# Altium schematic symbol library MCU_ST_STM32L1.SchLib: 158 symbols (part 3 of 4)
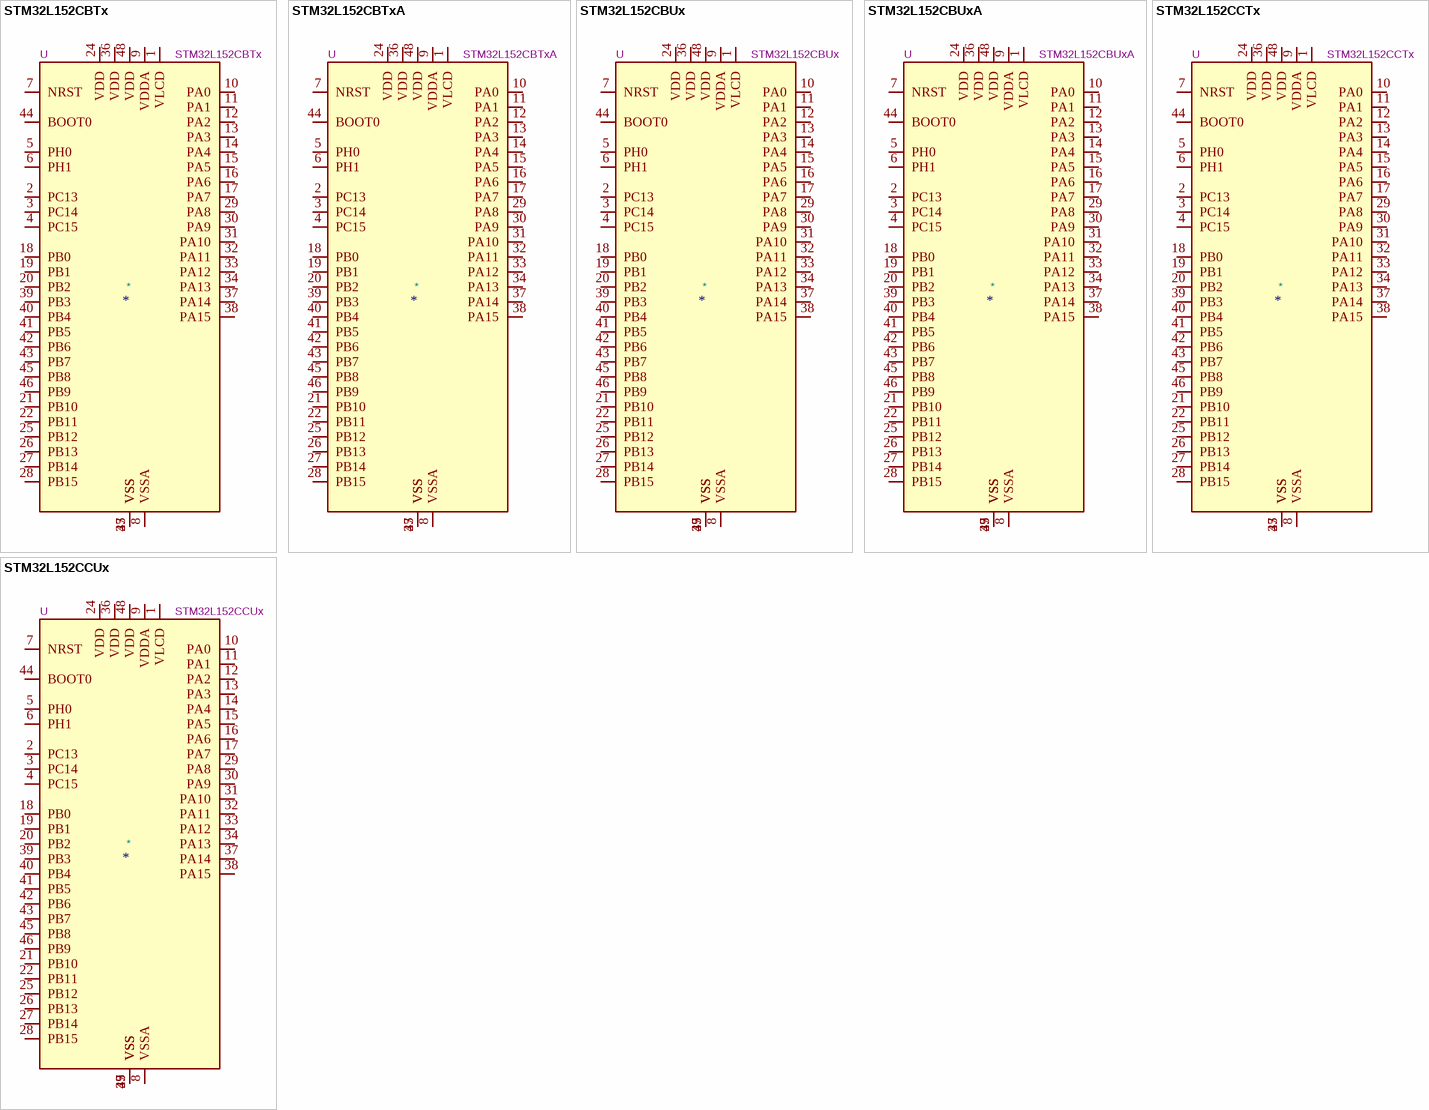
[diagram p28: symbols STM32L152CBTx to STM32L152CCUx]

## STM32L152CBTxA
designator *  value STM32L152CBTxA  Reference: U
STMicroelectronics Arm Cortex-M3 MCU, 128KB flash, 32KB RAM, 32 MHz, 1.65-3.6V, 37 GPIO, LQFP48; ki_keywords: Arm Cortex-M3 STM32L1 STM32L151/152; ki_fp_filters: LQFP*7x7mm*P0.5mm*; Footprint: Package_QFP:LQFP-48_7x7mm_P0.5mm; Datasheet: https://www.st.com/resource/en/datasheet/stm32l152cb-a.pdf; Description_: STMicroelectronics Arm Cortex-M3 MCU, 128KB flash, 32KB RAM, 32 MHz, 1.65-3.6V, 37 GPIO, LQFP48
pins: 1 VLCD, 2 PC13, 3 PC14, 4 PC15, 5 PH0, 6 PH1, 7 NRST, 8 VSSA, 9 VDDA, 10 PA0, 11 PA1, 12 PA2, 13 PA3, 14 PA4, 15 PA5, 16 PA6, 17 PA7, 18 PB0, 19 PB1, 20 PB2, 21 PB10, 22 PB11, 23 VSS, 24 VDD, 25 PB12, 26 PB13, 27 PB14, 28 PB15, 29 PA8, 30 PA9, 31 PA10, 32 PA11, 33 PA12, 34 PA13, 35 VSS, 36 VDD, 37 PA14, 38 PA15, 39 PB3, 40 PB4, 41 PB5, 42 PB6, 43 PB7, 44 BOOT0, 45 PB8, 46 PB9, 47 VSS, 48 VDD

## STM32L152CBUx
designator *  value STM32L152CBUx  Reference: U
STMicroelectronics Arm Cortex-M3 MCU, 128KB flash, 16KB RAM, 32 MHz, 1.65-3.6V, 37 GPIO, UFQFPN48; ki_keywords: Arm Cortex-M3 STM32L1 STM32L151/152; ki_fp_filters: QFN*1EP*7x7mm*P0.5mm*; Footprint: Package_DFN_QFN:QFN-48-1EP_7x7mm_P0.5mm_EP5.6x5.6mm; Datasheet: https://www.st.com/resource/en/datasheet/stm32l152cb.pdf; Description_: STMicroelectronics Arm Cortex-M3 MCU, 128KB flash, 16KB RAM, 32 MHz, 1.65-3.6V, 37 GPIO, UFQFPN48
pins: 1 VLCD, 2 PC13, 3 PC14, 4 PC15, 5 PH0, 6 PH1, 7 NRST, 8 VSSA, 9 VDDA, 10 PA0, 11 PA1, 12 PA2, 13 PA3, 14 PA4, 15 PA5, 16 PA6, 17 PA7, 18 PB0, 19 PB1, 20 PB2, 21 PB10, 22 PB11, 23 VSS, 24 VDD, 25 PB12, 26 PB13, 27 PB14, 28 PB15, 29 PA8, 30 PA9, 31 PA10, 32 PA11, 33 PA12, 34 PA13, 35 VSS, 36 VDD, 37 PA14, 38 PA15, 39 PB3, 40 PB4, 41 PB5, 42 PB6, 43 PB7, 44 BOOT0, 45 PB8, 46 PB9, 47 VSS, 48 VDD, 49 VSS

## STM32L152CBUxA
designator *  value STM32L152CBUxA  Reference: U
STMicroelectronics Arm Cortex-M3 MCU, 128KB flash, 32KB RAM, 32 MHz, 1.65-3.6V, 37 GPIO, UFQFPN48; ki_keywords: Arm Cortex-M3 STM32L1 STM32L151/152; ki_fp_filters: QFN*1EP*7x7mm*P0.5mm*; Footprint: Package_DFN_QFN:QFN-48-1EP_7x7mm_P0.5mm_EP5.6x5.6mm; Datasheet: https://www.st.com/resource/en/datasheet/stm32l152cb-a.pdf; Description_: STMicroelectronics Arm Cortex-M3 MCU, 128KB flash, 32KB RAM, 32 MHz, 1.65-3.6V, 37 GPIO, UFQFPN48
pins: 1 VLCD, 2 PC13, 3 PC14, 4 PC15, 5 PH0, 6 PH1, 7 NRST, 8 VSSA, 9 VDDA, 10 PA0, 11 PA1, 12 PA2, 13 PA3, 14 PA4, 15 PA5, 16 PA6, 17 PA7, 18 PB0, 19 PB1, 20 PB2, 21 PB10, 22 PB11, 23 VSS, 24 VDD, 25 PB12, 26 PB13, 27 PB14, 28 PB15, 29 PA8, 30 PA9, 31 PA10, 32 PA11, 33 PA12, 34 PA13, 35 VSS, 36 VDD, 37 PA14, 38 PA15, 39 PB3, 40 PB4, 41 PB5, 42 PB6, 43 PB7, 44 BOOT0, 45 PB8, 46 PB9, 47 VSS, 48 VDD, 49 VSS

## STM32L152CCTx
designator *  value STM32L152CCTx  Reference: U
STMicroelectronics Arm Cortex-M3 MCU, 256KB flash, 32KB RAM, 32 MHz, 1.65-3.6V, 37 GPIO, LQFP48; ki_keywords: Arm Cortex-M3 STM32L1 STM32L151/152; ki_fp_filters: LQFP*7x7mm*P0.5mm*; Footprint: Package_QFP:LQFP-48_7x7mm_P0.5mm; Datasheet: https://www.st.com/resource/en/datasheet/stm32l152cc.pdf; Description_: STMicroelectronics Arm Cortex-M3 MCU, 256KB flash, 32KB RAM, 32 MHz, 1.65-3.6V, 37 GPIO, LQFP48
pins: 1 VLCD, 2 PC13, 3 PC14, 4 PC15, 5 PH0, 6 PH1, 7 NRST, 8 VSSA, 9 VDDA, 10 PA0, 11 PA1, 12 PA2, 13 PA3, 14 PA4, 15 PA5, 16 PA6, 17 PA7, 18 PB0, 19 PB1, 20 PB2, 21 PB10, 22 PB11, 23 VSS, 24 VDD, 25 PB12, 26 PB13, 27 PB14, 28 PB15, 29 PA8, 30 PA9, 31 PA10, 32 PA11, 33 PA12, 34 PA13, 35 VSS, 36 VDD, 37 PA14, 38 PA15, 39 PB3, 40 PB4, 41 PB5, 42 PB6, 43 PB7, 44 BOOT0, 45 PB8, 46 PB9, 47 VSS, 48 VDD

## STM32L152CCUx
designator *  value STM32L152CCUx  Reference: U
STMicroelectronics Arm Cortex-M3 MCU, 256KB flash, 32KB RAM, 32 MHz, 1.65-3.6V, 37 GPIO, UFQFPN48; ki_keywords: Arm Cortex-M3 STM32L1 STM32L151/152; ki_fp_filters: QFN*1EP*7x7mm*P0.5mm*; Footprint: Package_DFN_QFN:QFN-48-1EP_7x7mm_P0.5mm_EP5.6x5.6mm; Datasheet: https://www.st.com/resource/en/datasheet/stm32l152cc.pdf; Description_: STMicroelectronics Arm Cortex-M3 MCU, 256KB flash, 32KB RAM, 32 MHz, 1.65-3.6V, 37 GPIO, UFQFPN48
pins: 1 VLCD, 2 PC13, 3 PC14, 4 PC15, 5 PH0, 6 PH1, 7 NRST, 8 VSSA, 9 VDDA, 10 PA0, 11 PA1, 12 PA2, 13 PA3, 14 PA4, 15 PA5, 16 PA6, 17 PA7, 18 PB0, 19 PB1, 20 PB2, 21 PB10, 22 PB11, 23 VSS, 24 VDD, 25 PB12, 26 PB13, 27 PB14, 28 PB15, 29 PA8, 30 PA9, 31 PA10, 32 PA11, 33 PA12, 34 PA13, 35 VSS, 36 VDD, 37 PA14, 38 PA15, 39 PB3, 40 PB4, 41 PB5, 42 PB6, 43 PB7, 44 BOOT0, 45 PB8, 46 PB9, 47 VSS, 48 VDD, 49 VSS

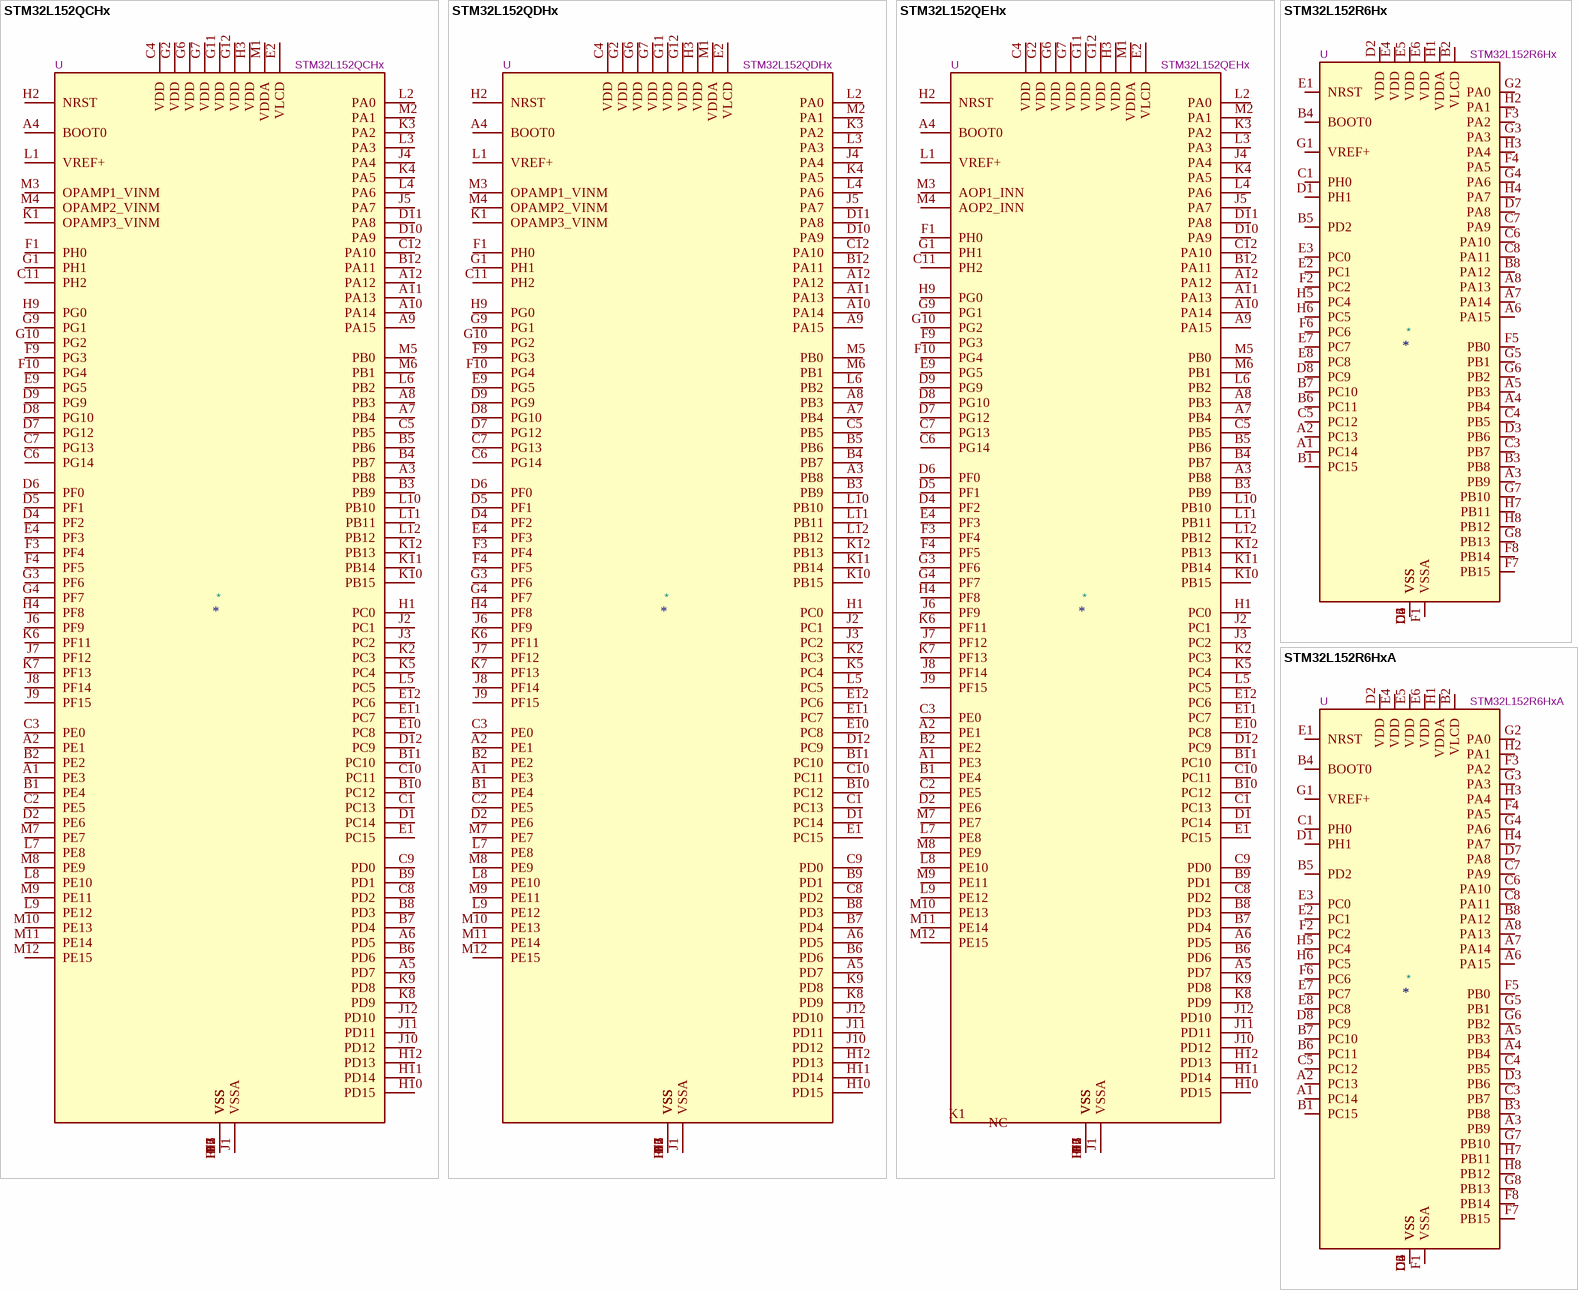
[diagram p14: symbols STM32L152QCHx to STM32L152R6HxA]

## STM32L152QCHx
designator *  value STM32L152QCHx  Reference: U
STMicroelectronics Arm Cortex-M3 MCU, 256KB flash, 32KB RAM, 32 MHz, 1.65-3.6V, 112 GPIO, UFBGA132; ki_keywords: Arm Cortex-M3 STM32L1 STM32L151/152; ki_fp_filters: UFBGA*7x7mm*Layout12x12*P0.5mm*; Footprint: Package_BGA:UFBGA-132_7x7mm_Layout12x12_P0.5mm; Datasheet: https://www.st.com/resource/en/datasheet/stm32l152qc.pdf; Description_: STMicroelectronics Arm Cortex-M3 MCU, 256KB flash, 32KB RAM, 32 MHz, 1.65-3.6V, 112 GPIO, UFBGA132
pins: A1 PE3, A2 PE1, A3 PB8, A4 BOOT0, A5 PD7, A6 PD5, A7 PB4, A8 PB3, A9 PA15, A10 PA14, A11 PA13, A12 PA12, B1 PE4, B2 PE2, B3 PB9, B4 PB7, B5 PB6, B6 PD6, B7 PD4, B8 PD3, B9 PD1, B10 PC12, B11 PC10, B12 PA11, C1 PC13, C2 PE5, C3 PE0, C4 VDD, C5 PB5, C6 PG14, C7 PG13, C8 PD2, C9 PD0, C10 PC11, C11 PH2, C12 PA10, D1 PC14, D2 PE6, D3 VSS, D4 PF2, D5 PF1, D6 PF0, D7 PG12, D8 PG10, D9 PG9, D10 PA9, D11 PA8, D12 PC9, E1 PC15, E2 VLCD, E3 VSS, E4 PF3, E9 PG5, E10 PC8, E11 PC7, E12 PC6, F1 PH0, F2 VSS, F3 PF4, F4 PF5, F6 VSS, F7 VSS, F9 PG3, F10 PG4, F11 VSS, F12 VSS, G1 PH1, G2 VDD, G3 PF6, G4 PF7, G6 VDD, G7 VDD, G9 PG1, G10 PG2, G11 VDD, G12 VDD, H1 PC0, H2 NRST, H3 VDD, H4 PF8, H9 PG0, H10 PD15, H11 PD14, H12 PD13, J1 VSSA, J2 PC1, J3 PC2, J4 PA4, J5 PA7, J6 PF9, J7 PF12, J8 PF14, J9 PF15, J10 PD12, J11 PD11, J12 PD10, K1 OPAMP3_VINM, K2 PC3, K3 PA2, K4 PA5, K5 PC4, K6 PF11, K7 PF13, K8 PD9, K9 PD8, K10 PB15, K11 PB14, K12 PB13, L1 VREF+, L2 PA0, L3 PA3, L4 PA6, L5 PC5, L6 PB2, L7 PE8, L8 PE10, L9 PE12, L10 PB10, L11 PB11, L12 PB12, M1 VDDA, M2 PA1, M3 OPAMP1_VINM, M4 OPAMP2_VINM, M5 PB0, M6 PB1, M7 PE7, M8 PE9, M9 PE11, M10 PE13, M11 PE14, M12 PE15

## STM32L152QDHx
designator *  value STM32L152QDHx  Reference: U
STMicroelectronics Arm Cortex-M3 MCU, 384KB flash, 48KB RAM, 32 MHz, 1.65-3.6V, 112 GPIO, UFBGA132; ki_keywords: Arm Cortex-M3 STM32L1 STM32L151/152; ki_fp_filters: UFBGA*7x7mm*Layout12x12*P0.5mm*; Footprint: Package_BGA:UFBGA-132_7x7mm_Layout12x12_P0.5mm; Datasheet: https://www.st.com/resource/en/datasheet/stm32l152qd.pdf; Description_: STMicroelectronics Arm Cortex-M3 MCU, 384KB flash, 48KB RAM, 32 MHz, 1.65-3.6V, 112 GPIO, UFBGA132
pins: A1 PE3, A2 PE1, A3 PB8, A4 BOOT0, A5 PD7, A6 PD5, A7 PB4, A8 PB3, A9 PA15, A10 PA14, A11 PA13, A12 PA12, B1 PE4, B2 PE2, B3 PB9, B4 PB7, B5 PB6, B6 PD6, B7 PD4, B8 PD3, B9 PD1, B10 PC12, B11 PC10, B12 PA11, C1 PC13, C2 PE5, C3 PE0, C4 VDD, C5 PB5, C6 PG14, C7 PG13, C8 PD2, C9 PD0, C10 PC11, C11 PH2, C12 PA10, D1 PC14, D2 PE6, D3 VSS, D4 PF2, D5 PF1, D6 PF0, D7 PG12, D8 PG10, D9 PG9, D10 PA9, D11 PA8, D12 PC9, E1 PC15, E2 VLCD, E3 VSS, E4 PF3, E9 PG5, E10 PC8, E11 PC7, E12 PC6, F1 PH0, F2 VSS, F3 PF4, F4 PF5, F6 VSS, F7 VSS, F9 PG3, F10 PG4, F11 VSS, F12 VSS, G1 PH1, G2 VDD, G3 PF6, G4 PF7, G6 VDD, G7 VDD, G9 PG1, G10 PG2, G11 VDD, G12 VDD, H1 PC0, H2 NRST, H3 VDD, H4 PF8, H9 PG0, H10 PD15, H11 PD14, H12 PD13, J1 VSSA, J2 PC1, J3 PC2, J4 PA4, J5 PA7, J6 PF9, J7 PF12, J8 PF14, J9 PF15, J10 PD12, J11 PD11, J12 PD10, K1 OPAMP3_VINM, K2 PC3, K3 PA2, K4 PA5, K5 PC4, K6 PF11, K7 PF13, K8 PD9, K9 PD8, K10 PB15, K11 PB14, K12 PB13, L1 VREF+, L2 PA0, L3 PA3, L4 PA6, L5 PC5, L6 PB2, L7 PE8, L8 PE10, L9 PE12, L10 PB10, L11 PB11, L12 PB12, M1 VDDA, M2 PA1, M3 OPAMP1_VINM, M4 OPAMP2_VINM, M5 PB0, M6 PB1, M7 PE7, M8 PE9, M9 PE11, M10 PE13, M11 PE14, M12 PE15

## STM32L152QEHx
designator *  value STM32L152QEHx  Reference: U
STMicroelectronics Arm Cortex-M3 MCU, 512KB flash, 80KB RAM, 32 MHz, 1.65-3.6V, 111 GPIO, UFBGA132; ki_keywords: Arm Cortex-M3 STM32L1 STM32L151/152; ki_fp_filters: UFBGA*7x7mm*Layout12x12*P0.5mm*; Footprint: Package_BGA:UFBGA-132_7x7mm_Layout12x12_P0.5mm; Datasheet: https://www.st.com/resource/en/datasheet/stm32l152qe.pdf; Description_: STMicroelectronics Arm Cortex-M3 MCU, 512KB flash, 80KB RAM, 32 MHz, 1.65-3.6V, 111 GPIO, UFBGA132
pins: A1 PE3, A2 PE1, A3 PB8, A4 BOOT0, A5 PD7, A6 PD5, A7 PB4, A8 PB3, A9 PA15, A10 PA14, A11 PA13, A12 PA12, B1 PE4, B2 PE2, B3 PB9, B4 PB7, B5 PB6, B6 PD6, B7 PD4, B8 PD3, B9 PD1, B10 PC12, B11 PC10, B12 PA11, C1 PC13, C2 PE5, C3 PE0, C4 VDD, C5 PB5, C6 PG14, C7 PG13, C8 PD2, C9 PD0, C10 PC11, C11 PH2, C12 PA10, D1 PC14, D2 PE6, D3 VSS, D4 PF2, D5 PF1, D6 PF0, D7 PG12, D8 PG10, D9 PG9, D10 PA9, D11 PA8, D12 PC9, E1 PC15, E2 VLCD, E3 VSS, E4 PF3, E9 PG5, E10 PC8, E11 PC7, E12 PC6, F1 PH0, F2 VSS, F3 PF4, F4 PF5, F6 VSS, F7 VSS, F9 PG3, F10 PG4, F11 VSS, F12 VSS, G1 PH1, G2 VDD, G3 PF6, G4 PF7, G6 VDD, G7 VDD, G9 PG1, G10 PG2, G11 VDD, G12 VDD, H1 PC0, H2 NRST, H3 VDD, H4 PF8, H9 PG0, H10 PD15, H11 PD14, H12 PD13, J1 VSSA, J2 PC1, J3 PC2, J4 PA4, J5 PA7, J6 PF9, J7 PF12, J8 PF14, J9 PF15, J10 PD12, J11 PD11, J12 PD10, K1 NC, K2 PC3, K3 PA2, K4 PA5, K5 PC4, K6 PF11, K7 PF13, K8 PD9, K9 PD8, K10 PB15, K11 PB14, K12 PB13, L1 VREF+, L2 PA0, L3 PA3, L4 PA6, L5 PC5, L6 PB2, L7 PE8, L8 PE10, L9 PE12, L10 PB10, L11 PB11, L12 PB12, M1 VDDA, M2 PA1, M3 AOP1_INN, M4 AOP2_INN, M5 PB0, M6 PB1, M7 PE7, M8 PE9, M9 PE11, M10 PE13, M11 PE14, M12 PE15

## STM32L152R6Hx
designator *  value STM32L152R6Hx  Reference: U
STMicroelectronics Arm Cortex-M3 MCU, 32KB flash, 10KB RAM, 32 MHz, 1.65-3.6V, 50 GPIO, TFBGA64; ki_keywords: Arm Cortex-M3 STM32L1 STM32L151/152; ki_fp_filters: TFBGA*5x5mm*Layout8x8*P0.5mm*; Footprint: Package_BGA:TFBGA-64_5x5mm_Layout8x8_P0.5mm; Datasheet: https://www.st.com/resource/en/datasheet/stm32l152r6.pdf; Description_: STMicroelectronics Arm Cortex-M3 MCU, 32KB flash, 10KB RAM, 32 MHz, 1.65-3.6V, 50 GPIO, TFBGA64
pins: A1 PC14, A2 PC13, A3 PB9, A4 PB4, A5 PB3, A6 PA15, A7 PA14, A8 PA13, B1 PC15, B2 VLCD, B3 PB8, B4 BOOT0, B5 PD2, B6 PC11, B7 PC10, B8 PA12, C1 PH0, C2 VSS, C3 PB7, C4 PB5, C5 PC12, C6 PA10, C7 PA9, C8 PA11, D1 PH1, D2 VDD, D3 PB6, D4 VSS, D5 VSS, D6 VSS, D7 PA8, D8 PC9, E1 NRST, E2 PC1, E3 PC0, E4 VDD, E5 VDD, E6 VDD, E7 PC7, E8 PC8, F1 VSSA, F2 PC2, F3 PA2, F4 PA5, F5 PB0, F6 PC6, F7 PB15, F8 PB14, G1 VREF+, G2 PA0, G3 PA3, G4 PA6, G5 PB1, G6 PB2, G7 PB10, G8 PB13, H1 VDDA, H2 PA1, H3 PA4, H4 PA7, H5 PC4, H6 PC5, H7 PB11, H8 PB12

## STM32L152R6HxA
designator *  value STM32L152R6HxA  Reference: U
STMicroelectronics Arm Cortex-M3 MCU, 32KB flash, 16KB RAM, 32 MHz, 1.65-3.6V, 50 GPIO, TFBGA64; ki_keywords: Arm Cortex-M3 STM32L1 STM32L151/152; ki_fp_filters: TFBGA*5x5mm*Layout8x8*P0.5mm*; Footprint: Package_BGA:TFBGA-64_5x5mm_Layout8x8_P0.5mm; Datasheet: https://www.st.com/resource/en/datasheet/stm32l152r6-a.pdf; Description_: STMicroelectronics Arm Cortex-M3 MCU, 32KB flash, 16KB RAM, 32 MHz, 1.65-3.6V, 50 GPIO, TFBGA64
pins: A1 PC14, A2 PC13, A3 PB9, A4 PB4, A5 PB3, A6 PA15, A7 PA14, A8 PA13, B1 PC15, B2 VLCD, B3 PB8, B4 BOOT0, B5 PD2, B6 PC11, B7 PC10, B8 PA12, C1 PH0, C2 VSS, C3 PB7, C4 PB5, C5 PC12, C6 PA10, C7 PA9, C8 PA11, D1 PH1, D2 VDD, D3 PB6, D4 VSS, D5 VSS, D6 VSS, D7 PA8, D8 PC9, E1 NRST, E2 PC1, E3 PC0, E4 VDD, E5 VDD, E6 VDD, E7 PC7, E8 PC8, F1 VSSA, F2 PC2, F3 PA2, F4 PA5, F5 PB0, F6 PC6, F7 PB15, F8 PB14, G1 VREF+, G2 PA0, G3 PA3, G4 PA6, G5 PB1, G6 PB2, G7 PB10, G8 PB13, H1 VDDA, H2 PA1, H3 PA4, H4 PA7, H5 PC4, H6 PC5, H7 PB11, H8 PB12

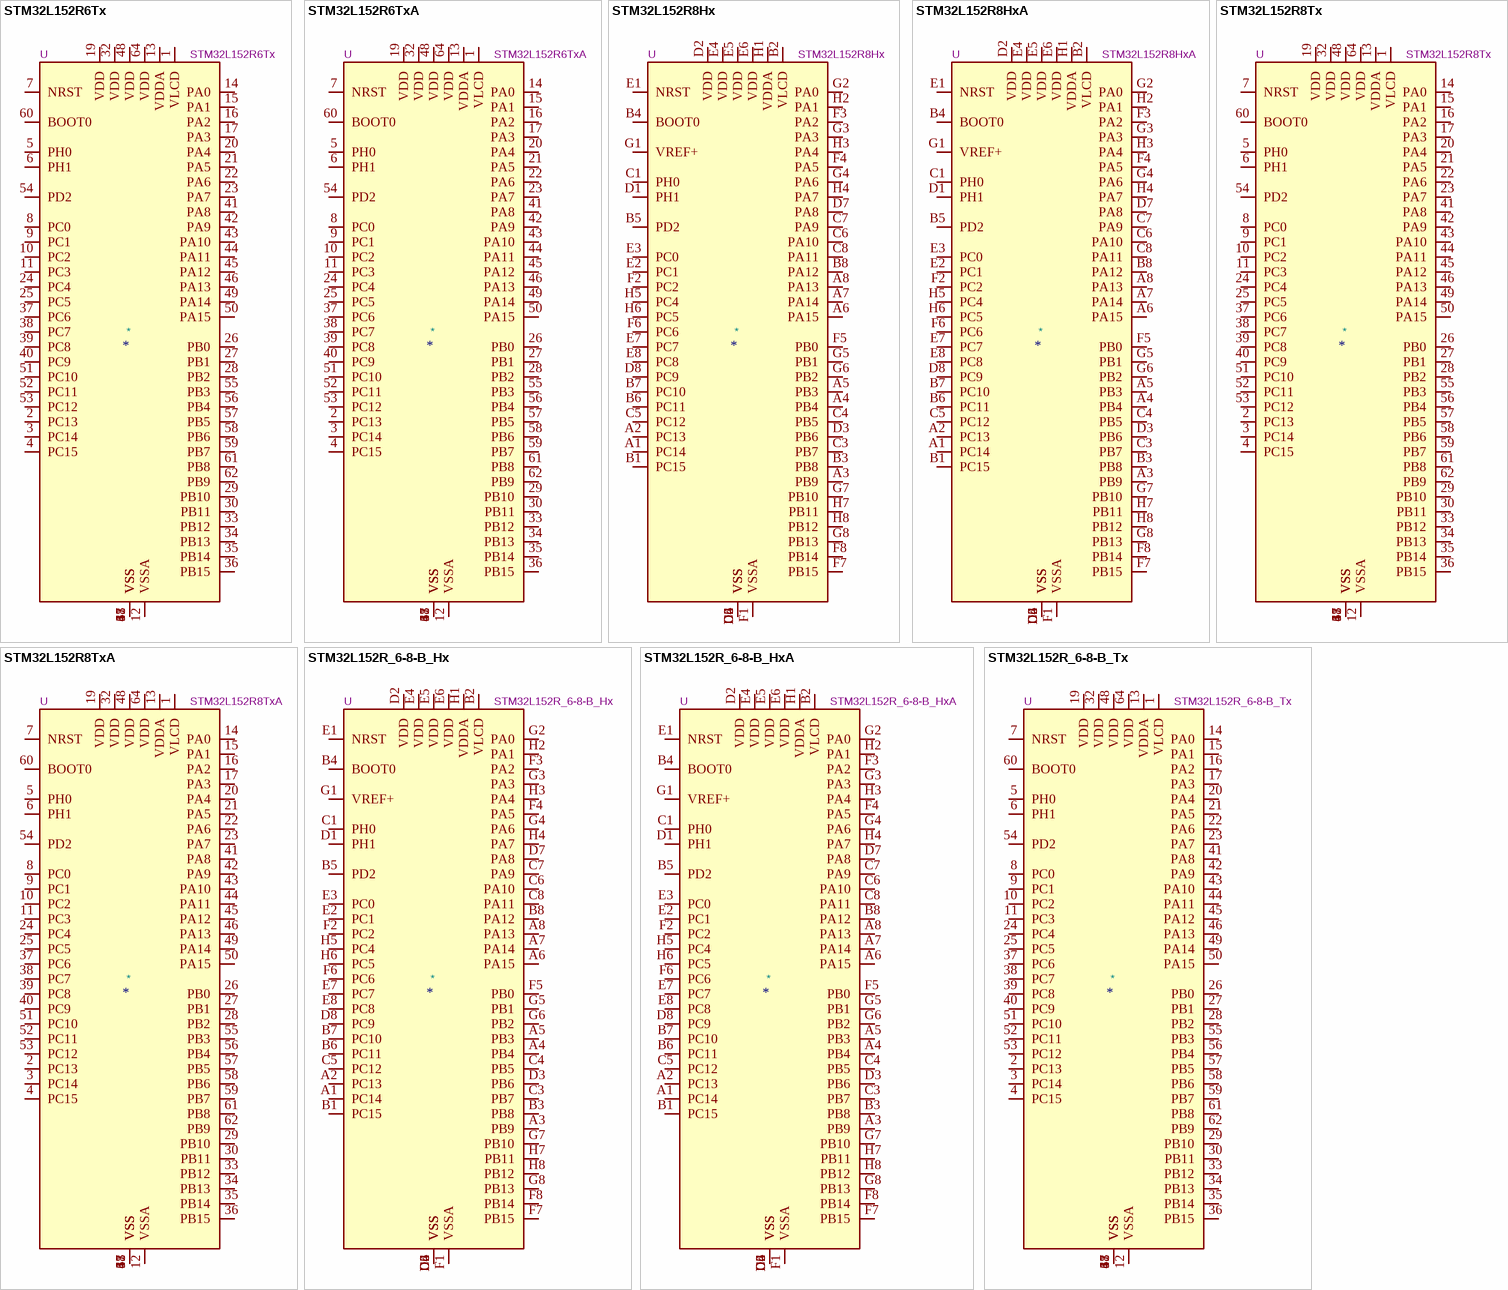
[diagram p15: symbols STM32L152R6Tx to STM32L152R_6-8-B_Tx]

## STM32L152R6Tx
designator *  value STM32L152R6Tx  Reference: U
STMicroelectronics Arm Cortex-M3 MCU, 32KB flash, 10KB RAM, 32 MHz, 1.65-3.6V, 51 GPIO, LQFP64; ki_keywords: Arm Cortex-M3 STM32L1 STM32L151/152; ki_fp_filters: LQFP*10x10mm*P0.5mm*; Footprint: Package_QFP:LQFP-64_10x10mm_P0.5mm; Datasheet: https://www.st.com/resource/en/datasheet/stm32l152r6.pdf; Description_: STMicroelectronics Arm Cortex-M3 MCU, 32KB flash, 10KB RAM, 32 MHz, 1.65-3.6V, 51 GPIO, LQFP64
pins: 1 VLCD, 2 PC13, 3 PC14, 4 PC15, 5 PH0, 6 PH1, 7 NRST, 8 PC0, 9 PC1, 10 PC2, 11 PC3, 12 VSSA, 13 VDDA, 14 PA0, 15 PA1, 16 PA2, 17 PA3, 18 VSS, 19 VDD, 20 PA4, 21 PA5, 22 PA6, 23 PA7, 24 PC4, 25 PC5, 26 PB0, 27 PB1, 28 PB2, 29 PB10, 30 PB11, 31 VSS, 32 VDD, 33 PB12, 34 PB13, 35 PB14, 36 PB15, 37 PC6, 38 PC7, 39 PC8, 40 PC9, 41 PA8, 42 PA9, 43 PA10, 44 PA11, 45 PA12, 46 PA13, 47 VSS, 48 VDD, 49 PA14, 50 PA15, 51 PC10, 52 PC11, 53 PC12, 54 PD2, 55 PB3, 56 PB4, 57 PB5, 58 PB6, 59 PB7, 60 BOOT0, 61 PB8, 62 PB9, 63 VSS, 64 VDD

## STM32L152R6TxA
designator *  value STM32L152R6TxA  Reference: U
STMicroelectronics Arm Cortex-M3 MCU, 32KB flash, 16KB RAM, 32 MHz, 1.65-3.6V, 51 GPIO, LQFP64; ki_keywords: Arm Cortex-M3 STM32L1 STM32L151/152; ki_fp_filters: LQFP*10x10mm*P0.5mm*; Footprint: Package_QFP:LQFP-64_10x10mm_P0.5mm; Datasheet: https://www.st.com/resource/en/datasheet/stm32l152r6-a.pdf; Description_: STMicroelectronics Arm Cortex-M3 MCU, 32KB flash, 16KB RAM, 32 MHz, 1.65-3.6V, 51 GPIO, LQFP64
pins: 1 VLCD, 2 PC13, 3 PC14, 4 PC15, 5 PH0, 6 PH1, 7 NRST, 8 PC0, 9 PC1, 10 PC2, 11 PC3, 12 VSSA, 13 VDDA, 14 PA0, 15 PA1, 16 PA2, 17 PA3, 18 VSS, 19 VDD, 20 PA4, 21 PA5, 22 PA6, 23 PA7, 24 PC4, 25 PC5, 26 PB0, 27 PB1, 28 PB2, 29 PB10, 30 PB11, 31 VSS, 32 VDD, 33 PB12, 34 PB13, 35 PB14, 36 PB15, 37 PC6, 38 PC7, 39 PC8, 40 PC9, 41 PA8, 42 PA9, 43 PA10, 44 PA11, 45 PA12, 46 PA13, 47 VSS, 48 VDD, 49 PA14, 50 PA15, 51 PC10, 52 PC11, 53 PC12, 54 PD2, 55 PB3, 56 PB4, 57 PB5, 58 PB6, 59 PB7, 60 BOOT0, 61 PB8, 62 PB9, 63 VSS, 64 VDD

## STM32L152R8Hx
designator *  value STM32L152R8Hx  Reference: U
STMicroelectronics Arm Cortex-M3 MCU, 64KB flash, 10KB RAM, 32 MHz, 1.65-3.6V, 50 GPIO, TFBGA64; ki_keywords: Arm Cortex-M3 STM32L1 STM32L151/152; ki_fp_filters: TFBGA*5x5mm*Layout8x8*P0.5mm*; Footprint: Package_BGA:TFBGA-64_5x5mm_Layout8x8_P0.5mm; Datasheet: https://www.st.com/resource/en/datasheet/stm32l152r8.pdf; Description_: STMicroelectronics Arm Cortex-M3 MCU, 64KB flash, 10KB RAM, 32 MHz, 1.65-3.6V, 50 GPIO, TFBGA64
pins: A1 PC14, A2 PC13, A3 PB9, A4 PB4, A5 PB3, A6 PA15, A7 PA14, A8 PA13, B1 PC15, B2 VLCD, B3 PB8, B4 BOOT0, B5 PD2, B6 PC11, B7 PC10, B8 PA12, C1 PH0, C2 VSS, C3 PB7, C4 PB5, C5 PC12, C6 PA10, C7 PA9, C8 PA11, D1 PH1, D2 VDD, D3 PB6, D4 VSS, D5 VSS, D6 VSS, D7 PA8, D8 PC9, E1 NRST, E2 PC1, E3 PC0, E4 VDD, E5 VDD, E6 VDD, E7 PC7, E8 PC8, F1 VSSA, F2 PC2, F3 PA2, F4 PA5, F5 PB0, F6 PC6, F7 PB15, F8 PB14, G1 VREF+, G2 PA0, G3 PA3, G4 PA6, G5 PB1, G6 PB2, G7 PB10, G8 PB13, H1 VDDA, H2 PA1, H3 PA4, H4 PA7, H5 PC4, H6 PC5, H7 PB11, H8 PB12

## STM32L152R8HxA
designator *  value STM32L152R8HxA  Reference: U
STMicroelectronics Arm Cortex-M3 MCU, 64KB flash, 32KB RAM, 32 MHz, 1.65-3.6V, 50 GPIO, TFBGA64; ki_keywords: Arm Cortex-M3 STM32L1 STM32L151/152; ki_fp_filters: TFBGA*5x5mm*Layout8x8*P0.5mm*; Footprint: Package_BGA:TFBGA-64_5x5mm_Layout8x8_P0.5mm; Datasheet: https://www.st.com/resource/en/datasheet/stm32l152r8-a.pdf; Description_: STMicroelectronics Arm Cortex-M3 MCU, 64KB flash, 32KB RAM, 32 MHz, 1.65-3.6V, 50 GPIO, TFBGA64
pins: A1 PC14, A2 PC13, A3 PB9, A4 PB4, A5 PB3, A6 PA15, A7 PA14, A8 PA13, B1 PC15, B2 VLCD, B3 PB8, B4 BOOT0, B5 PD2, B6 PC11, B7 PC10, B8 PA12, C1 PH0, C2 VSS, C3 PB7, C4 PB5, C5 PC12, C6 PA10, C7 PA9, C8 PA11, D1 PH1, D2 VDD, D3 PB6, D4 VSS, D5 VSS, D6 VSS, D7 PA8, D8 PC9, E1 NRST, E2 PC1, E3 PC0, E4 VDD, E5 VDD, E6 VDD, E7 PC7, E8 PC8, F1 VSSA, F2 PC2, F3 PA2, F4 PA5, F5 PB0, F6 PC6, F7 PB15, F8 PB14, G1 VREF+, G2 PA0, G3 PA3, G4 PA6, G5 PB1, G6 PB2, G7 PB10, G8 PB13, H1 VDDA, H2 PA1, H3 PA4, H4 PA7, H5 PC4, H6 PC5, H7 PB11, H8 PB12

## STM32L152R8Tx
designator *  value STM32L152R8Tx  Reference: U
STMicroelectronics Arm Cortex-M3 MCU, 64KB flash, 10KB RAM, 32 MHz, 1.65-3.6V, 51 GPIO, LQFP64; ki_keywords: Arm Cortex-M3 STM32L1 STM32L151/152; ki_fp_filters: LQFP*10x10mm*P0.5mm*; Footprint: Package_QFP:LQFP-64_10x10mm_P0.5mm; Datasheet: https://www.st.com/resource/en/datasheet/stm32l152r8.pdf; Description_: STMicroelectronics Arm Cortex-M3 MCU, 64KB flash, 10KB RAM, 32 MHz, 1.65-3.6V, 51 GPIO, LQFP64
pins: 1 VLCD, 2 PC13, 3 PC14, 4 PC15, 5 PH0, 6 PH1, 7 NRST, 8 PC0, 9 PC1, 10 PC2, 11 PC3, 12 VSSA, 13 VDDA, 14 PA0, 15 PA1, 16 PA2, 17 PA3, 18 VSS, 19 VDD, 20 PA4, 21 PA5, 22 PA6, 23 PA7, 24 PC4, 25 PC5, 26 PB0, 27 PB1, 28 PB2, 29 PB10, 30 PB11, 31 VSS, 32 VDD, 33 PB12, 34 PB13, 35 PB14, 36 PB15, 37 PC6, 38 PC7, 39 PC8, 40 PC9, 41 PA8, 42 PA9, 43 PA10, 44 PA11, 45 PA12, 46 PA13, 47 VSS, 48 VDD, 49 PA14, 50 PA15, 51 PC10, 52 PC11, 53 PC12, 54 PD2, 55 PB3, 56 PB4, 57 PB5, 58 PB6, 59 PB7, 60 BOOT0, 61 PB8, 62 PB9, 63 VSS, 64 VDD

## STM32L152R8TxA
designator *  value STM32L152R8TxA  Reference: U
STMicroelectronics Arm Cortex-M3 MCU, 64KB flash, 32KB RAM, 32 MHz, 1.65-3.6V, 51 GPIO, LQFP64; ki_keywords: Arm Cortex-M3 STM32L1 STM32L151/152; ki_fp_filters: LQFP*10x10mm*P0.5mm*; Footprint: Package_QFP:LQFP-64_10x10mm_P0.5mm; Datasheet: https://www.st.com/resource/en/datasheet/stm32l152r8-a.pdf; Description_: STMicroelectronics Arm Cortex-M3 MCU, 64KB flash, 32KB RAM, 32 MHz, 1.65-3.6V, 51 GPIO, LQFP64
pins: 1 VLCD, 2 PC13, 3 PC14, 4 PC15, 5 PH0, 6 PH1, 7 NRST, 8 PC0, 9 PC1, 10 PC2, 11 PC3, 12 VSSA, 13 VDDA, 14 PA0, 15 PA1, 16 PA2, 17 PA3, 18 VSS, 19 VDD, 20 PA4, 21 PA5, 22 PA6, 23 PA7, 24 PC4, 25 PC5, 26 PB0, 27 PB1, 28 PB2, 29 PB10, 30 PB11, 31 VSS, 32 VDD, 33 PB12, 34 PB13, 35 PB14, 36 PB15, 37 PC6, 38 PC7, 39 PC8, 40 PC9, 41 PA8, 42 PA9, 43 PA10, 44 PA11, 45 PA12, 46 PA13, 47 VSS, 48 VDD, 49 PA14, 50 PA15, 51 PC10, 52 PC11, 53 PC12, 54 PD2, 55 PB3, 56 PB4, 57 PB5, 58 PB6, 59 PB7, 60 BOOT0, 61 PB8, 62 PB9, 63 VSS, 64 VDD

## STM32L152R_6-8-B_Hx
designator *  value STM32L152R_6-8-B_Hx  Reference: U
STMicroelectronics Arm Cortex-M3 MCU, 32-128KB flash, 10-16KB RAM, 32 MHz, 1.65-3.6V, 50 GPIO, TFBGA64; ki_keywords: Arm Cortex-M3 STM32L1 STM32L151/152; ki_fp_filters: TFBGA*5x5mm*Layout8x8*P0.5mm*; Footprint: Package_BGA:TFBGA-64_5x5mm_Layout8x8_P0.5mm; Datasheet: https://www.st.com/resource/en/datasheet/stm32l152r6.pdf; Description_: STMicroelectronics Arm Cortex-M3 MCU, 32-128KB flash, 10-16KB RAM, 32 MHz, 1.65-3.6V, 50 GPIO, TFBGA64
pins: A1 PC14, A2 PC13, A3 PB9, A4 PB4, A5 PB3, A6 PA15, A7 PA14, A8 PA13, B1 PC15, B2 VLCD, B3 PB8, B4 BOOT0, B5 PD2, B6 PC11, B7 PC10, B8 PA12, C1 PH0, C2 VSS, C3 PB7, C4 PB5, C5 PC12, C6 PA10, C7 PA9, C8 PA11, D1 PH1, D2 VDD, D3 PB6, D4 VSS, D5 VSS, D6 VSS, D7 PA8, D8 PC9, E1 NRST, E2 PC1, E3 PC0, E4 VDD, E5 VDD, E6 VDD, E7 PC7, E8 PC8, F1 VSSA, F2 PC2, F3 PA2, F4 PA5, F5 PB0, F6 PC6, F7 PB15, F8 PB14, G1 VREF+, G2 PA0, G3 PA3, G4 PA6, G5 PB1, G6 PB2, G7 PB10, G8 PB13, H1 VDDA, H2 PA1, H3 PA4, H4 PA7, H5 PC4, H6 PC5, H7 PB11, H8 PB12

## STM32L152R_6-8-B_HxA
designator *  value STM32L152R_6-8-B_HxA  Reference: U
STMicroelectronics Arm Cortex-M3 MCU, 32-128KB flash, 16-32KB RAM, 32 MHz, 1.65-3.6V, 50 GPIO, TFBGA64; ki_keywords: Arm Cortex-M3 STM32L1 STM32L151/152; ki_fp_filters: TFBGA*5x5mm*Layout8x8*P0.5mm*; Footprint: Package_BGA:TFBGA-64_5x5mm_Layout8x8_P0.5mm; Datasheet: https://www.st.com/resource/en/datasheet/stm32l152r6-a.pdf; Description_: STMicroelectronics Arm Cortex-M3 MCU, 32-128KB flash, 16-32KB RAM, 32 MHz, 1.65-3.6V, 50 GPIO, TFBGA64
pins: A1 PC14, A2 PC13, A3 PB9, A4 PB4, A5 PB3, A6 PA15, A7 PA14, A8 PA13, B1 PC15, B2 VLCD, B3 PB8, B4 BOOT0, B5 PD2, B6 PC11, B7 PC10, B8 PA12, C1 PH0, C2 VSS, C3 PB7, C4 PB5, C5 PC12, C6 PA10, C7 PA9, C8 PA11, D1 PH1, D2 VDD, D3 PB6, D4 VSS, D5 VSS, D6 VSS, D7 PA8, D8 PC9, E1 NRST, E2 PC1, E3 PC0, E4 VDD, E5 VDD, E6 VDD, E7 PC7, E8 PC8, F1 VSSA, F2 PC2, F3 PA2, F4 PA5, F5 PB0, F6 PC6, F7 PB15, F8 PB14, G1 VREF+, G2 PA0, G3 PA3, G4 PA6, G5 PB1, G6 PB2, G7 PB10, G8 PB13, H1 VDDA, H2 PA1, H3 PA4, H4 PA7, H5 PC4, H6 PC5, H7 PB11, H8 PB12

## STM32L152R_6-8-B_Tx
designator *  value STM32L152R_6-8-B_Tx  Reference: U
STMicroelectronics Arm Cortex-M3 MCU, 32-128KB flash, 10-16KB RAM, 32 MHz, 1.65-3.6V, 51 GPIO, LQFP64; ki_keywords: Arm Cortex-M3 STM32L1 STM32L151/152; ki_fp_filters: LQFP*10x10mm*P0.5mm*; Footprint: Package_QFP:LQFP-64_10x10mm_P0.5mm; Datasheet: https://www.st.com/resource/en/datasheet/stm32l152r6.pdf; Description_: STMicroelectronics Arm Cortex-M3 MCU, 32-128KB flash, 10-16KB RAM, 32 MHz, 1.65-3.6V, 51 GPIO, LQFP64
pins: 1 VLCD, 2 PC13, 3 PC14, 4 PC15, 5 PH0, 6 PH1, 7 NRST, 8 PC0, 9 PC1, 10 PC2, 11 PC3, 12 VSSA, 13 VDDA, 14 PA0, 15 PA1, 16 PA2, 17 PA3, 18 VSS, 19 VDD, 20 PA4, 21 PA5, 22 PA6, 23 PA7, 24 PC4, 25 PC5, 26 PB0, 27 PB1, 28 PB2, 29 PB10, 30 PB11, 31 VSS, 32 VDD, 33 PB12, 34 PB13, 35 PB14, 36 PB15, 37 PC6, 38 PC7, 39 PC8, 40 PC9, 41 PA8, 42 PA9, 43 PA10, 44 PA11, 45 PA12, 46 PA13, 47 VSS, 48 VDD, 49 PA14, 50 PA15, 51 PC10, 52 PC11, 53 PC12, 54 PD2, 55 PB3, 56 PB4, 57 PB5, 58 PB6, 59 PB7, 60 BOOT0, 61 PB8, 62 PB9, 63 VSS, 64 VDD

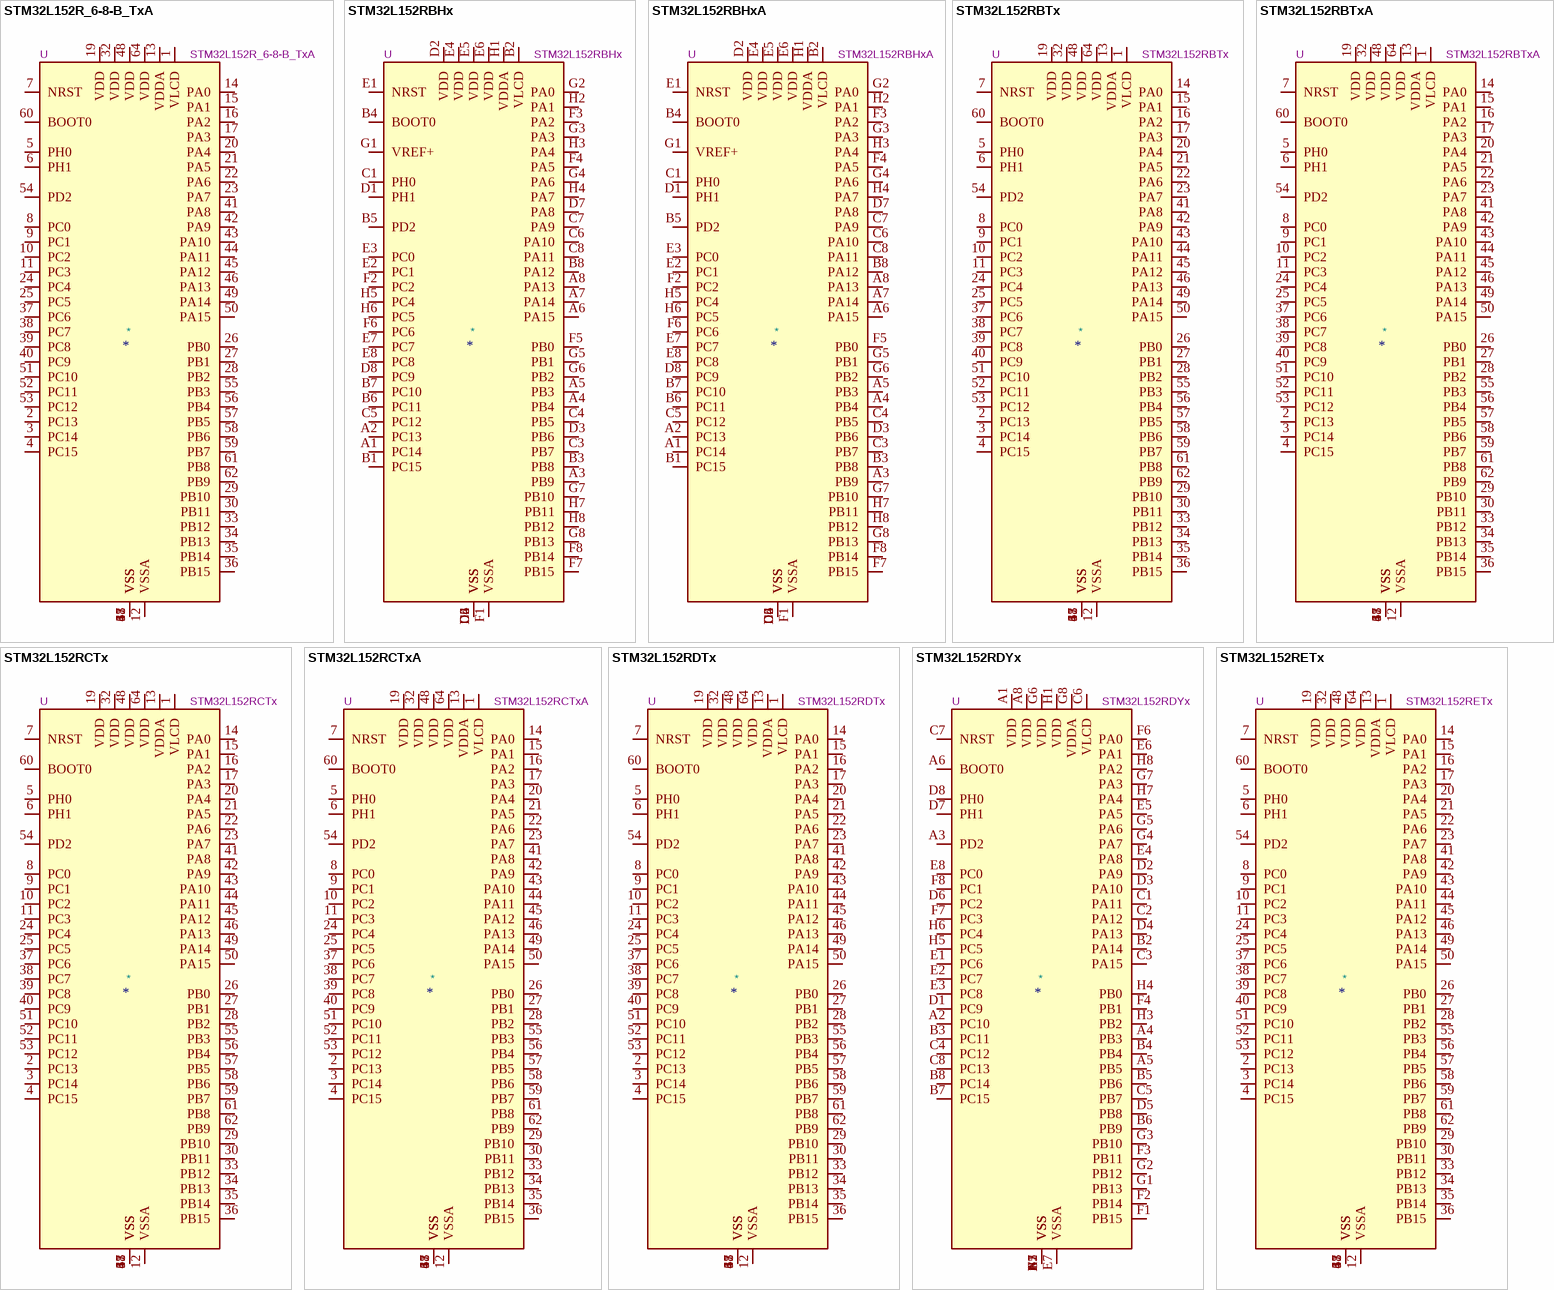
[diagram p16: symbols STM32L152R_6-8-B_TxA to STM32L152RETx]

## STM32L152R_6-8-B_TxA
designator *  value STM32L152R_6-8-B_TxA  Reference: U
STMicroelectronics Arm Cortex-M3 MCU, 32-128KB flash, 16-32KB RAM, 32 MHz, 1.65-3.6V, 51 GPIO, LQFP64; ki_keywords: Arm Cortex-M3 STM32L1 STM32L151/152; ki_fp_filters: LQFP*10x10mm*P0.5mm*; Footprint: Package_QFP:LQFP-64_10x10mm_P0.5mm; Datasheet: https://www.st.com/resource/en/datasheet/stm32l152r6-a.pdf; Description_: STMicroelectronics Arm Cortex-M3 MCU, 32-128KB flash, 16-32KB RAM, 32 MHz, 1.65-3.6V, 51 GPIO, LQFP64
pins: 1 VLCD, 2 PC13, 3 PC14, 4 PC15, 5 PH0, 6 PH1, 7 NRST, 8 PC0, 9 PC1, 10 PC2, 11 PC3, 12 VSSA, 13 VDDA, 14 PA0, 15 PA1, 16 PA2, 17 PA3, 18 VSS, 19 VDD, 20 PA4, 21 PA5, 22 PA6, 23 PA7, 24 PC4, 25 PC5, 26 PB0, 27 PB1, 28 PB2, 29 PB10, 30 PB11, 31 VSS, 32 VDD, 33 PB12, 34 PB13, 35 PB14, 36 PB15, 37 PC6, 38 PC7, 39 PC8, 40 PC9, 41 PA8, 42 PA9, 43 PA10, 44 PA11, 45 PA12, 46 PA13, 47 VSS, 48 VDD, 49 PA14, 50 PA15, 51 PC10, 52 PC11, 53 PC12, 54 PD2, 55 PB3, 56 PB4, 57 PB5, 58 PB6, 59 PB7, 60 BOOT0, 61 PB8, 62 PB9, 63 VSS, 64 VDD

## STM32L152RBHx
designator *  value STM32L152RBHx  Reference: U
STMicroelectronics Arm Cortex-M3 MCU, 128KB flash, 16KB RAM, 32 MHz, 1.65-3.6V, 50 GPIO, TFBGA64; ki_keywords: Arm Cortex-M3 STM32L1 STM32L151/152; ki_fp_filters: TFBGA*5x5mm*Layout8x8*P0.5mm*; Footprint: Package_BGA:TFBGA-64_5x5mm_Layout8x8_P0.5mm; Datasheet: https://www.st.com/resource/en/datasheet/stm32l152rb.pdf; Description_: STMicroelectronics Arm Cortex-M3 MCU, 128KB flash, 16KB RAM, 32 MHz, 1.65-3.6V, 50 GPIO, TFBGA64
pins: A1 PC14, A2 PC13, A3 PB9, A4 PB4, A5 PB3, A6 PA15, A7 PA14, A8 PA13, B1 PC15, B2 VLCD, B3 PB8, B4 BOOT0, B5 PD2, B6 PC11, B7 PC10, B8 PA12, C1 PH0, C2 VSS, C3 PB7, C4 PB5, C5 PC12, C6 PA10, C7 PA9, C8 PA11, D1 PH1, D2 VDD, D3 PB6, D4 VSS, D5 VSS, D6 VSS, D7 PA8, D8 PC9, E1 NRST, E2 PC1, E3 PC0, E4 VDD, E5 VDD, E6 VDD, E7 PC7, E8 PC8, F1 VSSA, F2 PC2, F3 PA2, F4 PA5, F5 PB0, F6 PC6, F7 PB15, F8 PB14, G1 VREF+, G2 PA0, G3 PA3, G4 PA6, G5 PB1, G6 PB2, G7 PB10, G8 PB13, H1 VDDA, H2 PA1, H3 PA4, H4 PA7, H5 PC4, H6 PC5, H7 PB11, H8 PB12

## STM32L152RBHxA
designator *  value STM32L152RBHxA  Reference: U
STMicroelectronics Arm Cortex-M3 MCU, 128KB flash, 32KB RAM, 32 MHz, 1.65-3.6V, 50 GPIO, TFBGA64; ki_keywords: Arm Cortex-M3 STM32L1 STM32L151/152; ki_fp_filters: TFBGA*5x5mm*Layout8x8*P0.5mm*; Footprint: Package_BGA:TFBGA-64_5x5mm_Layout8x8_P0.5mm; Datasheet: https://www.st.com/resource/en/datasheet/stm32l152rb-a.pdf; Description_: STMicroelectronics Arm Cortex-M3 MCU, 128KB flash, 32KB RAM, 32 MHz, 1.65-3.6V, 50 GPIO, TFBGA64
pins: A1 PC14, A2 PC13, A3 PB9, A4 PB4, A5 PB3, A6 PA15, A7 PA14, A8 PA13, B1 PC15, B2 VLCD, B3 PB8, B4 BOOT0, B5 PD2, B6 PC11, B7 PC10, B8 PA12, C1 PH0, C2 VSS, C3 PB7, C4 PB5, C5 PC12, C6 PA10, C7 PA9, C8 PA11, D1 PH1, D2 VDD, D3 PB6, D4 VSS, D5 VSS, D6 VSS, D7 PA8, D8 PC9, E1 NRST, E2 PC1, E3 PC0, E4 VDD, E5 VDD, E6 VDD, E7 PC7, E8 PC8, F1 VSSA, F2 PC2, F3 PA2, F4 PA5, F5 PB0, F6 PC6, F7 PB15, F8 PB14, G1 VREF+, G2 PA0, G3 PA3, G4 PA6, G5 PB1, G6 PB2, G7 PB10, G8 PB13, H1 VDDA, H2 PA1, H3 PA4, H4 PA7, H5 PC4, H6 PC5, H7 PB11, H8 PB12

## STM32L152RBTx
designator *  value STM32L152RBTx  Reference: U
STMicroelectronics Arm Cortex-M3 MCU, 128KB flash, 16KB RAM, 32 MHz, 1.65-3.6V, 51 GPIO, LQFP64; ki_keywords: Arm Cortex-M3 STM32L1 STM32L151/152; ki_fp_filters: LQFP*10x10mm*P0.5mm*; Footprint: Package_QFP:LQFP-64_10x10mm_P0.5mm; Datasheet: https://www.st.com/resource/en/datasheet/stm32l152rb.pdf; Description_: STMicroelectronics Arm Cortex-M3 MCU, 128KB flash, 16KB RAM, 32 MHz, 1.65-3.6V, 51 GPIO, LQFP64
pins: 1 VLCD, 2 PC13, 3 PC14, 4 PC15, 5 PH0, 6 PH1, 7 NRST, 8 PC0, 9 PC1, 10 PC2, 11 PC3, 12 VSSA, 13 VDDA, 14 PA0, 15 PA1, 16 PA2, 17 PA3, 18 VSS, 19 VDD, 20 PA4, 21 PA5, 22 PA6, 23 PA7, 24 PC4, 25 PC5, 26 PB0, 27 PB1, 28 PB2, 29 PB10, 30 PB11, 31 VSS, 32 VDD, 33 PB12, 34 PB13, 35 PB14, 36 PB15, 37 PC6, 38 PC7, 39 PC8, 40 PC9, 41 PA8, 42 PA9, 43 PA10, 44 PA11, 45 PA12, 46 PA13, 47 VSS, 48 VDD, 49 PA14, 50 PA15, 51 PC10, 52 PC11, 53 PC12, 54 PD2, 55 PB3, 56 PB4, 57 PB5, 58 PB6, 59 PB7, 60 BOOT0, 61 PB8, 62 PB9, 63 VSS, 64 VDD

## STM32L152RBTxA
designator *  value STM32L152RBTxA  Reference: U
STMicroelectronics Arm Cortex-M3 MCU, 128KB flash, 32KB RAM, 32 MHz, 1.65-3.6V, 51 GPIO, LQFP64; ki_keywords: Arm Cortex-M3 STM32L1 STM32L151/152; ki_fp_filters: LQFP*10x10mm*P0.5mm*; Footprint: Package_QFP:LQFP-64_10x10mm_P0.5mm; Datasheet: https://www.st.com/resource/en/datasheet/stm32l152rb-a.pdf; Description_: STMicroelectronics Arm Cortex-M3 MCU, 128KB flash, 32KB RAM, 32 MHz, 1.65-3.6V, 51 GPIO, LQFP64
pins: 1 VLCD, 2 PC13, 3 PC14, 4 PC15, 5 PH0, 6 PH1, 7 NRST, 8 PC0, 9 PC1, 10 PC2, 11 PC3, 12 VSSA, 13 VDDA, 14 PA0, 15 PA1, 16 PA2, 17 PA3, 18 VSS, 19 VDD, 20 PA4, 21 PA5, 22 PA6, 23 PA7, 24 PC4, 25 PC5, 26 PB0, 27 PB1, 28 PB2, 29 PB10, 30 PB11, 31 VSS, 32 VDD, 33 PB12, 34 PB13, 35 PB14, 36 PB15, 37 PC6, 38 PC7, 39 PC8, 40 PC9, 41 PA8, 42 PA9, 43 PA10, 44 PA11, 45 PA12, 46 PA13, 47 VSS, 48 VDD, 49 PA14, 50 PA15, 51 PC10, 52 PC11, 53 PC12, 54 PD2, 55 PB3, 56 PB4, 57 PB5, 58 PB6, 59 PB7, 60 BOOT0, 61 PB8, 62 PB9, 63 VSS, 64 VDD

## STM32L152RCTx
designator *  value STM32L152RCTx  Reference: U
STMicroelectronics Arm Cortex-M3 MCU, 256KB flash, 32KB RAM, 32 MHz, 1.65-3.6V, 51 GPIO, LQFP64; ki_keywords: Arm Cortex-M3 STM32L1 STM32L151/152; ki_fp_filters: LQFP*10x10mm*P0.5mm*; Footprint: Package_QFP:LQFP-64_10x10mm_P0.5mm; Datasheet: https://www.st.com/resource/en/datasheet/stm32l152rc.pdf; Description_: STMicroelectronics Arm Cortex-M3 MCU, 256KB flash, 32KB RAM, 32 MHz, 1.65-3.6V, 51 GPIO, LQFP64
pins: 1 VLCD, 2 PC13, 3 PC14, 4 PC15, 5 PH0, 6 PH1, 7 NRST, 8 PC0, 9 PC1, 10 PC2, 11 PC3, 12 VSSA, 13 VDDA, 14 PA0, 15 PA1, 16 PA2, 17 PA3, 18 VSS, 19 VDD, 20 PA4, 21 PA5, 22 PA6, 23 PA7, 24 PC4, 25 PC5, 26 PB0, 27 PB1, 28 PB2, 29 PB10, 30 PB11, 31 VSS, 32 VDD, 33 PB12, 34 PB13, 35 PB14, 36 PB15, 37 PC6, 38 PC7, 39 PC8, 40 PC9, 41 PA8, 42 PA9, 43 PA10, 44 PA11, 45 PA12, 46 PA13, 47 VSS, 48 VDD, 49 PA14, 50 PA15, 51 PC10, 52 PC11, 53 PC12, 54 PD2, 55 PB3, 56 PB4, 57 PB5, 58 PB6, 59 PB7, 60 BOOT0, 61 PB8, 62 PB9, 63 VSS, 64 VDD

## STM32L152RCTxA
designator *  value STM32L152RCTxA  Reference: U
STMicroelectronics Arm Cortex-M3 MCU, 256KB flash, 32KB RAM, 32 MHz, 1.65-3.6V, 51 GPIO, LQFP64; ki_keywords: Arm Cortex-M3 STM32L1 STM32L151/152; ki_fp_filters: LQFP*10x10mm*P0.5mm*; Footprint: Package_QFP:LQFP-64_10x10mm_P0.5mm; Datasheet: https://www.st.com/resource/en/datasheet/stm32l152rc-a.pdf; Description_: STMicroelectronics Arm Cortex-M3 MCU, 256KB flash, 32KB RAM, 32 MHz, 1.65-3.6V, 51 GPIO, LQFP64
pins: 1 VLCD, 2 PC13, 3 PC14, 4 PC15, 5 PH0, 6 PH1, 7 NRST, 8 PC0, 9 PC1, 10 PC2, 11 PC3, 12 VSSA, 13 VDDA, 14 PA0, 15 PA1, 16 PA2, 17 PA3, 18 VSS, 19 VDD, 20 PA4, 21 PA5, 22 PA6, 23 PA7, 24 PC4, 25 PC5, 26 PB0, 27 PB1, 28 PB2, 29 PB10, 30 PB11, 31 VSS, 32 VDD, 33 PB12, 34 PB13, 35 PB14, 36 PB15, 37 PC6, 38 PC7, 39 PC8, 40 PC9, 41 PA8, 42 PA9, 43 PA10, 44 PA11, 45 PA12, 46 PA13, 47 VSS, 48 VDD, 49 PA14, 50 PA15, 51 PC10, 52 PC11, 53 PC12, 54 PD2, 55 PB3, 56 PB4, 57 PB5, 58 PB6, 59 PB7, 60 BOOT0, 61 PB8, 62 PB9, 63 VSS, 64 VDD

## STM32L152RDTx
designator *  value STM32L152RDTx  Reference: U
STMicroelectronics Arm Cortex-M3 MCU, 384KB flash, 48KB RAM, 32 MHz, 1.65-3.6V, 51 GPIO, LQFP64; ki_keywords: Arm Cortex-M3 STM32L1 STM32L151/152; ki_fp_filters: LQFP*10x10mm*P0.5mm*; Footprint: Package_QFP:LQFP-64_10x10mm_P0.5mm; Datasheet: https://www.st.com/resource/en/datasheet/stm32l152rd.pdf; Description_: STMicroelectronics Arm Cortex-M3 MCU, 384KB flash, 48KB RAM, 32 MHz, 1.65-3.6V, 51 GPIO, LQFP64
pins: 1 VLCD, 2 PC13, 3 PC14, 4 PC15, 5 PH0, 6 PH1, 7 NRST, 8 PC0, 9 PC1, 10 PC2, 11 PC3, 12 VSSA, 13 VDDA, 14 PA0, 15 PA1, 16 PA2, 17 PA3, 18 VSS, 19 VDD, 20 PA4, 21 PA5, 22 PA6, 23 PA7, 24 PC4, 25 PC5, 26 PB0, 27 PB1, 28 PB2, 29 PB10, 30 PB11, 31 VSS, 32 VDD, 33 PB12, 34 PB13, 35 PB14, 36 PB15, 37 PC6, 38 PC7, 39 PC8, 40 PC9, 41 PA8, 42 PA9, 43 PA10, 44 PA11, 45 PA12, 46 PA13, 47 VSS, 48 VDD, 49 PA14, 50 PA15, 51 PC10, 52 PC11, 53 PC12, 54 PD2, 55 PB3, 56 PB4, 57 PB5, 58 PB6, 59 PB7, 60 BOOT0, 61 PB8, 62 PB9, 63 VSS, 64 VDD

## STM32L152RDYx
designator *  value STM32L152RDYx  Reference: U
STMicroelectronics Arm Cortex-M3 MCU, 384KB flash, 48KB RAM, 32 MHz, 1.65-3.6V, 51 GPIO, WLCSP64; ki_keywords: Arm Cortex-M3 STM32L1 STM32L151/152; ki_fp_filters: ST*WLCSP*Die436*; Footprint: Package_CSP:ST_WLCSP-64_Die436; Datasheet: https://www.st.com/resource/en/datasheet/stm32l152rd.pdf; Description_: STMicroelectronics Arm Cortex-M3 MCU, 384KB flash, 48KB RAM, 32 MHz, 1.65-3.6V, 51 GPIO, WLCSP64
pins: A1 VDD, A2 PC10, A3 PD2, A4 PB3, A5 PB5, A6 BOOT0, A7 VSS, A8 VDD, B1 VSS, B2 PA14, B3 PC11, B4 PB4, B5 PB6, B6 PB9, B7 PC15, B8 PC14, C1 PA11, C2 PA12, C3 PA15, C4 PC12, C5 PB7, C6 VLCD, C7 NRST, C8 PC13, D1 PC9, D2 PA9, D3 PA10, D4 PA13, D5 PB8, D6 PC2, D7 PH1, D8 PH0, E1 PC6, E2 PC7, E3 PC8, E4 PA8, E5 PA5, E6 PA1, E7 VSSA, E8 PC0, F1 PB15, F2 PB14, F3 PB11, F4 PB1, F5 VSS, F6 PA0, F7 PC3, F8 PC1, G1 PB13, G2 PB12, G3 PB10, G4 PA7, G5 PA6, G6 VDD, G7 PA3, G8 VDDA, H1 VDD, H2 VSS, H3 PB2, H4 PB0, H5 PC5, H6 PC4, H7 PA4, H8 PA2

## STM32L152RETx
designator *  value STM32L152RETx  Reference: U
STMicroelectronics Arm Cortex-M3 MCU, 512KB flash, 80KB RAM, 32 MHz, 1.65-3.6V, 51 GPIO, LQFP64; ki_keywords: Arm Cortex-M3 STM32L1 STM32L151/152; ki_fp_filters: LQFP*10x10mm*P0.5mm*; Footprint: Package_QFP:LQFP-64_10x10mm_P0.5mm; Datasheet: https://www.st.com/resource/en/datasheet/stm32l152re.pdf; Description_: STMicroelectronics Arm Cortex-M3 MCU, 512KB flash, 80KB RAM, 32 MHz, 1.65-3.6V, 51 GPIO, LQFP64
pins: 1 VLCD, 2 PC13, 3 PC14, 4 PC15, 5 PH0, 6 PH1, 7 NRST, 8 PC0, 9 PC1, 10 PC2, 11 PC3, 12 VSSA, 13 VDDA, 14 PA0, 15 PA1, 16 PA2, 17 PA3, 18 VSS, 19 VDD, 20 PA4, 21 PA5, 22 PA6, 23 PA7, 24 PC4, 25 PC5, 26 PB0, 27 PB1, 28 PB2, 29 PB10, 30 PB11, 31 VSS, 32 VDD, 33 PB12, 34 PB13, 35 PB14, 36 PB15, 37 PC6, 38 PC7, 39 PC8, 40 PC9, 41 PA8, 42 PA9, 43 PA10, 44 PA11, 45 PA12, 46 PA13, 47 VSS, 48 VDD, 49 PA14, 50 PA15, 51 PC10, 52 PC11, 53 PC12, 54 PD2, 55 PB3, 56 PB4, 57 PB5, 58 PB6, 59 PB7, 60 BOOT0, 61 PB8, 62 PB9, 63 VSS, 64 VDD

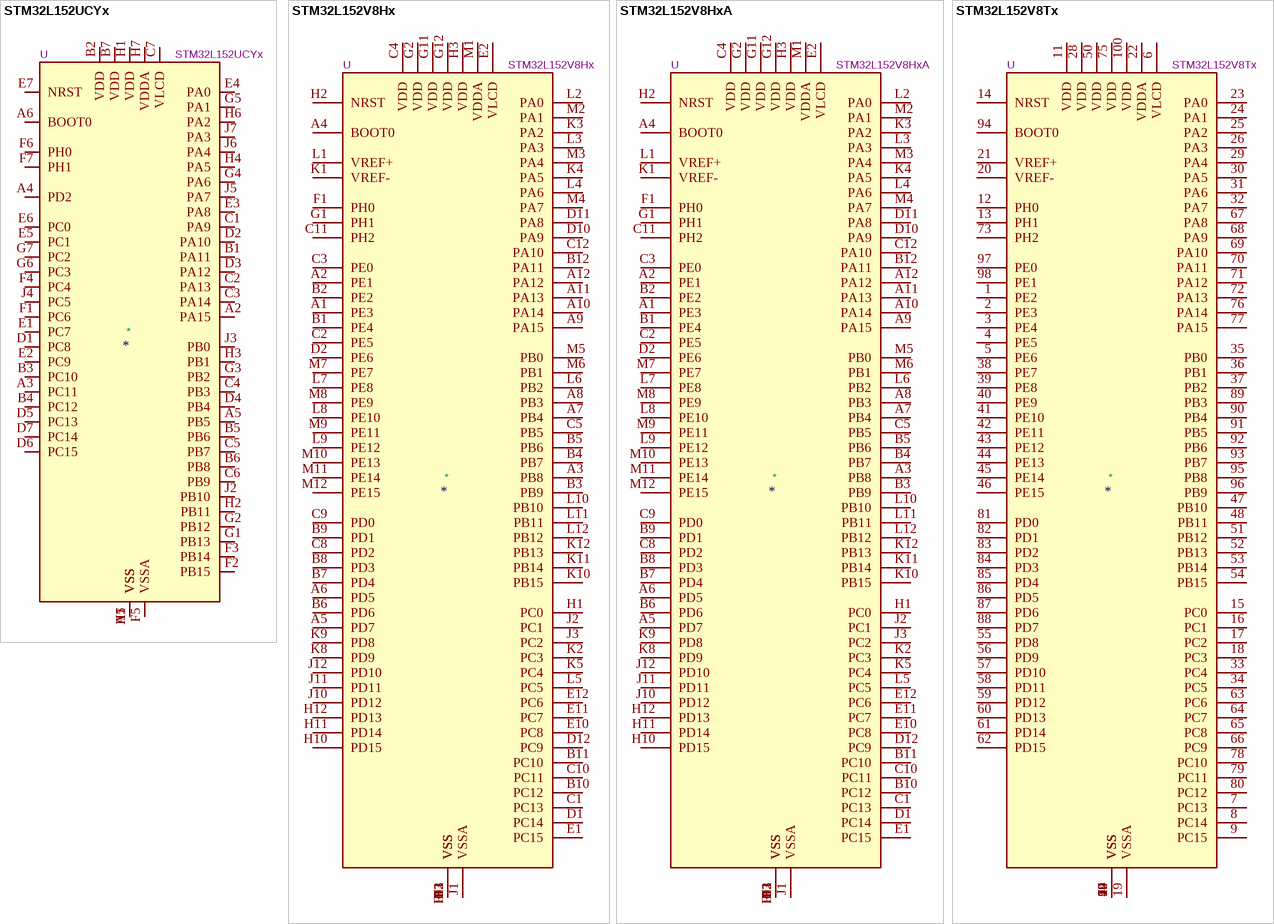
[diagram p17: symbols STM32L152UCYx to STM32L152V8Tx]

## STM32L152UCYx
designator *  value STM32L152UCYx  Reference: U
STMicroelectronics Arm Cortex-M3 MCU, 256KB flash, 32KB RAM, 32 MHz, 1.65-3.6V, 51 GPIO, WLCSP63; ki_keywords: Arm Cortex-M3 STM32L1 STM32L151/152; ki_fp_filters: ST*WLCSP*Die427*; Footprint: Package_CSP:ST_WLCSP-63_Die427; Datasheet: https://www.st.com/resource/en/datasheet/stm32l152uc.pdf; Description_: STMicroelectronics Arm Cortex-M3 MCU, 256KB flash, 32KB RAM, 32 MHz, 1.65-3.6V, 51 GPIO, WLCSP63
pins: A1 VSS, A2 PA15, A3 PC11, A4 PD2, A5 PB5, A6 BOOT0, A7 VSS, B1 PA11, B2 VDD, B3 PC10, B4 PC12, B5 PB6, B6 PB8, B7 VDD, C1 PA9, C2 PA13, C3 PA14, C4 PB3, C5 PB7, C6 PB9, C7 VLCD, D1 PC8, D2 PA10, D3 PA12, D4 PB4, D5 PC13, D6 PC15, D7 PC14, E1 PC7, E2 PC9, E3 PA8, E4 PA0, E5 PC1, E6 PC0, E7 NRST, F1 PC6, F2 PB15, F3 PB14, F4 PC4, F5 VSSA, F6 PH0, F7 PH1, G1 PB13, G2 PB12, G3 PB2, G4 PA6, G5 PA1, G6 PC3, G7 PC2, H1 VDD, H2 PB11, H3 PB1, H4 PA5, H5 VSS, H6 PA2, H7 VDDA, J1 VSS, J2 PB10, J3 PB0, J4 PC5, J5 PA7, J6 PA4, J7 PA3

## STM32L152V8Hx
designator *  value STM32L152V8Hx  Reference: U
STMicroelectronics Arm Cortex-M3 MCU, 64KB flash, 10KB RAM, 32 MHz, 1.65-3.6V, 83 GPIO, UFBGA100; ki_keywords: Arm Cortex-M3 STM32L1 STM32L151/152; ki_fp_filters: UFBGA*7x7mm*Layout12x12*P0.5mm*; Footprint: Package_BGA:UFBGA-100_7x7mm_Layout12x12_P0.5mm; Datasheet: https://www.st.com/resource/en/datasheet/stm32l152v8.pdf; Description_: STMicroelectronics Arm Cortex-M3 MCU, 64KB flash, 10KB RAM, 32 MHz, 1.65-3.6V, 83 GPIO, UFBGA100
pins: A1 PE3, A2 PE1, A3 PB8, A4 BOOT0, A5 PD7, A6 PD5, A7 PB4, A8 PB3, A9 PA15, A10 PA14, A11 PA13, A12 PA12, B1 PE4, B2 PE2, B3 PB9, B4 PB7, B5 PB6, B6 PD6, B7 PD4, B8 PD3, B9 PD1, B10 PC12, B11 PC10, B12 PA11, C1 PC13, C2 PE5, C3 PE0, C4 VDD, C5 PB5, C8 PD2, C9 PD0, C10 PC11, C11 PH2, C12 PA10, D1 PC14, D2 PE6, D3 VSS, D10 PA9, D11 PA8, D12 PC9, E1 PC15, E2 VLCD, E3 VSS, E10 PC8, E11 PC7, E12 PC6, F1 PH0, F2 VSS, F11 VSS, F12 VSS, G1 PH1, G2 VDD, G11 VDD, G12 VDD, H1 PC0, H2 NRST, H3 VDD, H10 PD15, H11 PD14, H12 PD13, J1 VSSA, J2 PC1, J3 PC2, J10 PD12, J11 PD11, J12 PD10, K1 VREF-, K2 PC3, K3 PA2, K4 PA5, K5 PC4, K8 PD9, K9 PD8, K10 PB15, K11 PB14, K12 PB13, L1 VREF+, L2 PA0, L3 PA3, L4 PA6, L5 PC5, L6 PB2, L7 PE8, L8 PE10, L9 PE12, L10 PB10, L11 PB11, L12 PB12, M1 VDDA, M2 PA1, M3 PA4, M4 PA7, M5 PB0, M6 PB1, M7 PE7, M8 PE9, M9 PE11, M10 PE13, M11 PE14, M12 PE15

## STM32L152V8HxA
designator *  value STM32L152V8HxA  Reference: U
STMicroelectronics Arm Cortex-M3 MCU, 64KB flash, 32KB RAM, 32 MHz, 1.65-3.6V, 83 GPIO, UFBGA100; ki_keywords: Arm Cortex-M3 STM32L1 STM32L151/152; ki_fp_filters: UFBGA*7x7mm*Layout12x12*P0.5mm*; Footprint: Package_BGA:UFBGA-100_7x7mm_Layout12x12_P0.5mm; Datasheet: https://www.st.com/resource/en/datasheet/stm32l152v8-a.pdf; Description_: STMicroelectronics Arm Cortex-M3 MCU, 64KB flash, 32KB RAM, 32 MHz, 1.65-3.6V, 83 GPIO, UFBGA100
pins: A1 PE3, A2 PE1, A3 PB8, A4 BOOT0, A5 PD7, A6 PD5, A7 PB4, A8 PB3, A9 PA15, A10 PA14, A11 PA13, A12 PA12, B1 PE4, B2 PE2, B3 PB9, B4 PB7, B5 PB6, B6 PD6, B7 PD4, B8 PD3, B9 PD1, B10 PC12, B11 PC10, B12 PA11, C1 PC13, C2 PE5, C3 PE0, C4 VDD, C5 PB5, C8 PD2, C9 PD0, C10 PC11, C11 PH2, C12 PA10, D1 PC14, D2 PE6, D3 VSS, D10 PA9, D11 PA8, D12 PC9, E1 PC15, E2 VLCD, E3 VSS, E10 PC8, E11 PC7, E12 PC6, F1 PH0, F2 VSS, F11 VSS, F12 VSS, G1 PH1, G2 VDD, G11 VDD, G12 VDD, H1 PC0, H2 NRST, H3 VDD, H10 PD15, H11 PD14, H12 PD13, J1 VSSA, J2 PC1, J3 PC2, J10 PD12, J11 PD11, J12 PD10, K1 VREF-, K2 PC3, K3 PA2, K4 PA5, K5 PC4, K8 PD9, K9 PD8, K10 PB15, K11 PB14, K12 PB13, L1 VREF+, L2 PA0, L3 PA3, L4 PA6, L5 PC5, L6 PB2, L7 PE8, L8 PE10, L9 PE12, L10 PB10, L11 PB11, L12 PB12, M1 VDDA, M2 PA1, M3 PA4, M4 PA7, M5 PB0, M6 PB1, M7 PE7, M8 PE9, M9 PE11, M10 PE13, M11 PE14, M12 PE15

## STM32L152V8Tx
designator *  value STM32L152V8Tx  Reference: U
STMicroelectronics Arm Cortex-M3 MCU, 64KB flash, 10KB RAM, 32 MHz, 1.65-3.6V, 83 GPIO, LQFP100; ki_keywords: Arm Cortex-M3 STM32L1 STM32L151/152; ki_fp_filters: LQFP*14x14mm*P0.5mm*; Footprint: Package_QFP:LQFP-100_14x14mm_P0.5mm; Datasheet: https://www.st.com/resource/en/datasheet/stm32l152v8.pdf; Description_: STMicroelectronics Arm Cortex-M3 MCU, 64KB flash, 10KB RAM, 32 MHz, 1.65-3.6V, 83 GPIO, LQFP100
pins: 1 PE2, 2 PE3, 3 PE4, 4 PE5, 5 PE6, 6 VLCD, 7 PC13, 8 PC14, 9 PC15, 10 VSS, 11 VDD, 12 PH0, 13 PH1, 14 NRST, 15 PC0, 16 PC1, 17 PC2, 18 PC3, 19 VSSA, 20 VREF-, 21 VREF+, 22 VDDA, 23 PA0, 24 PA1, 25 PA2, 26 PA3, 27 VSS, 28 VDD, 29 PA4, 30 PA5, 31 PA6, 32 PA7, 33 PC4, 34 PC5, 35 PB0, 36 PB1, 37 PB2, 38 PE7, 39 PE8, 40 PE9, 41 PE10, 42 PE11, 43 PE12, 44 PE13, 45 PE14, 46 PE15, 47 PB10, 48 PB11, 49 VSS, 50 VDD, 51 PB12, 52 PB13, 53 PB14, 54 PB15, 55 PD8, 56 PD9, 57 PD10, 58 PD11, 59 PD12, 60 PD13, 61 PD14, 62 PD15, 63 PC6, 64 PC7, 65 PC8, 66 PC9, 67 PA8, 68 PA9, 69 PA10, 70 PA11, 71 PA12, 72 PA13, 73 PH2, 74 VSS, 75 VDD, 76 PA14, 77 PA15, 78 PC10, 79 PC11, 80 PC12, 81 PD0, 82 PD1, 83 PD2, 84 PD3, 85 PD4, 86 PD5, 87 PD6, 88 PD7, 89 PB3, 90 PB4, 91 PB5, 92 PB6, 93 PB7, 94 BOOT0, 95 PB8, 96 PB9, 97 PE0, 98 PE1, 99 VSS, 100 VDD

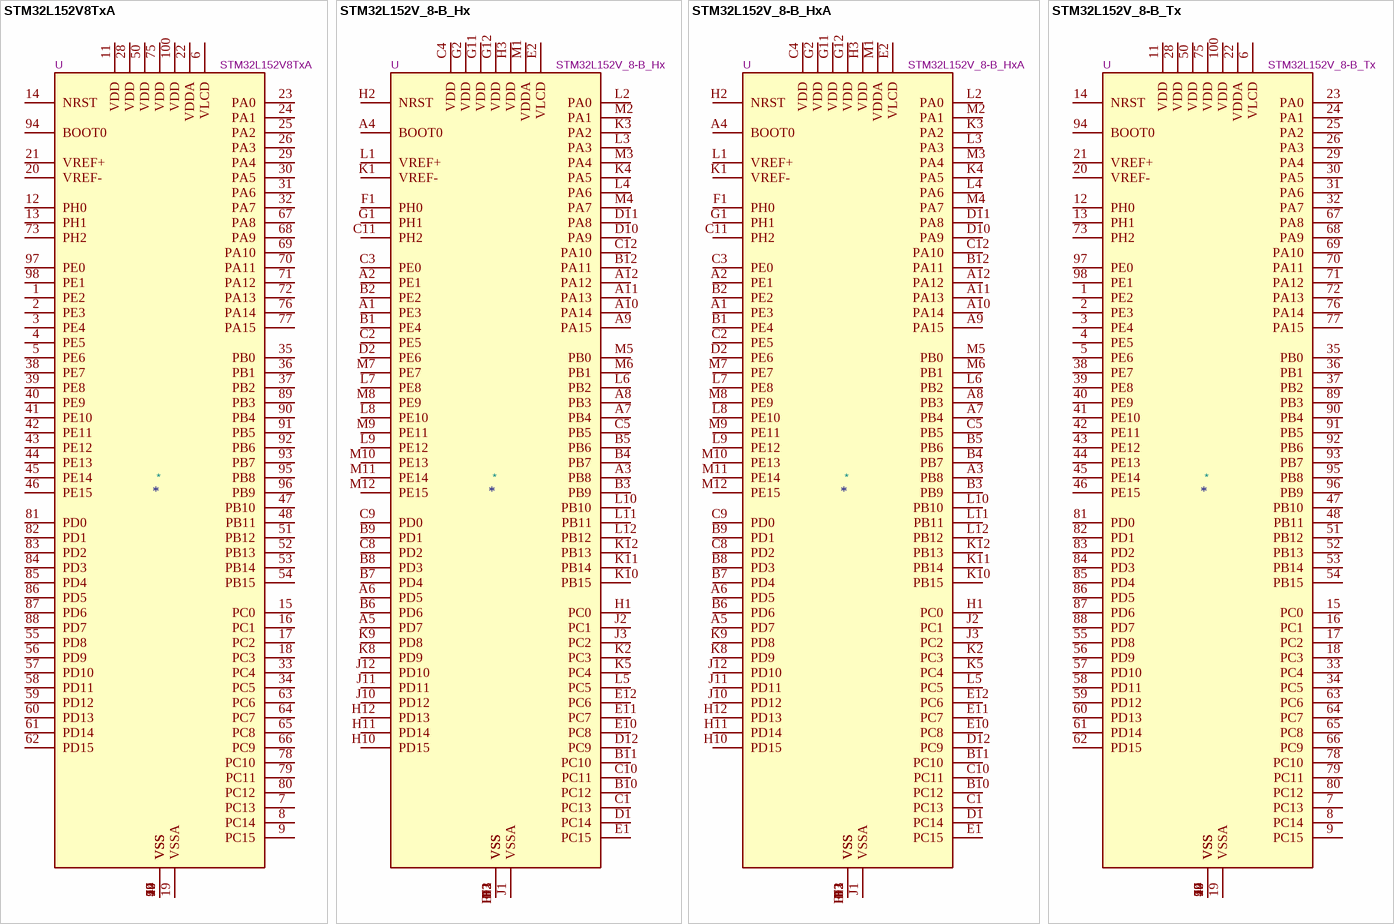
[diagram p18: symbols STM32L152V8TxA to STM32L152V_8-B_Tx]

## STM32L152V8TxA
designator *  value STM32L152V8TxA  Reference: U
STMicroelectronics Arm Cortex-M3 MCU, 64KB flash, 32KB RAM, 32 MHz, 1.65-3.6V, 83 GPIO, LQFP100; ki_keywords: Arm Cortex-M3 STM32L1 STM32L151/152; ki_fp_filters: LQFP*14x14mm*P0.5mm*; Footprint: Package_QFP:LQFP-100_14x14mm_P0.5mm; Datasheet: https://www.st.com/resource/en/datasheet/stm32l152v8-a.pdf; Description_: STMicroelectronics Arm Cortex-M3 MCU, 64KB flash, 32KB RAM, 32 MHz, 1.65-3.6V, 83 GPIO, LQFP100
pins: 1 PE2, 2 PE3, 3 PE4, 4 PE5, 5 PE6, 6 VLCD, 7 PC13, 8 PC14, 9 PC15, 10 VSS, 11 VDD, 12 PH0, 13 PH1, 14 NRST, 15 PC0, 16 PC1, 17 PC2, 18 PC3, 19 VSSA, 20 VREF-, 21 VREF+, 22 VDDA, 23 PA0, 24 PA1, 25 PA2, 26 PA3, 27 VSS, 28 VDD, 29 PA4, 30 PA5, 31 PA6, 32 PA7, 33 PC4, 34 PC5, 35 PB0, 36 PB1, 37 PB2, 38 PE7, 39 PE8, 40 PE9, 41 PE10, 42 PE11, 43 PE12, 44 PE13, 45 PE14, 46 PE15, 47 PB10, 48 PB11, 49 VSS, 50 VDD, 51 PB12, 52 PB13, 53 PB14, 54 PB15, 55 PD8, 56 PD9, 57 PD10, 58 PD11, 59 PD12, 60 PD13, 61 PD14, 62 PD15, 63 PC6, 64 PC7, 65 PC8, 66 PC9, 67 PA8, 68 PA9, 69 PA10, 70 PA11, 71 PA12, 72 PA13, 73 PH2, 74 VSS, 75 VDD, 76 PA14, 77 PA15, 78 PC10, 79 PC11, 80 PC12, 81 PD0, 82 PD1, 83 PD2, 84 PD3, 85 PD4, 86 PD5, 87 PD6, 88 PD7, 89 PB3, 90 PB4, 91 PB5, 92 PB6, 93 PB7, 94 BOOT0, 95 PB8, 96 PB9, 97 PE0, 98 PE1, 99 VSS, 100 VDD

## STM32L152V_8-B_Hx
designator *  value STM32L152V_8-B_Hx  Reference: U
STMicroelectronics Arm Cortex-M3 MCU, 64-128KB flash, 10-16KB RAM, 32 MHz, 1.65-3.6V, 83 GPIO, UFBGA100; ki_keywords: Arm Cortex-M3 STM32L1 STM32L151/152; ki_fp_filters: UFBGA*7x7mm*Layout12x12*P0.5mm*; Footprint: Package_BGA:UFBGA-100_7x7mm_Layout12x12_P0.5mm; Datasheet: https://www.st.com/resource/en/datasheet/stm32l152v8.pdf; Description_: STMicroelectronics Arm Cortex-M3 MCU, 64-128KB flash, 10-16KB RAM, 32 MHz, 1.65-3.6V, 83 GPIO, UFBGA100
pins: A1 PE3, A2 PE1, A3 PB8, A4 BOOT0, A5 PD7, A6 PD5, A7 PB4, A8 PB3, A9 PA15, A10 PA14, A11 PA13, A12 PA12, B1 PE4, B2 PE2, B3 PB9, B4 PB7, B5 PB6, B6 PD6, B7 PD4, B8 PD3, B9 PD1, B10 PC12, B11 PC10, B12 PA11, C1 PC13, C2 PE5, C3 PE0, C4 VDD, C5 PB5, C8 PD2, C9 PD0, C10 PC11, C11 PH2, C12 PA10, D1 PC14, D2 PE6, D3 VSS, D10 PA9, D11 PA8, D12 PC9, E1 PC15, E2 VLCD, E3 VSS, E10 PC8, E11 PC7, E12 PC6, F1 PH0, F2 VSS, F11 VSS, F12 VSS, G1 PH1, G2 VDD, G11 VDD, G12 VDD, H1 PC0, H2 NRST, H3 VDD, H10 PD15, H11 PD14, H12 PD13, J1 VSSA, J2 PC1, J3 PC2, J10 PD12, J11 PD11, J12 PD10, K1 VREF-, K2 PC3, K3 PA2, K4 PA5, K5 PC4, K8 PD9, K9 PD8, K10 PB15, K11 PB14, K12 PB13, L1 VREF+, L2 PA0, L3 PA3, L4 PA6, L5 PC5, L6 PB2, L7 PE8, L8 PE10, L9 PE12, L10 PB10, L11 PB11, L12 PB12, M1 VDDA, M2 PA1, M3 PA4, M4 PA7, M5 PB0, M6 PB1, M7 PE7, M8 PE9, M9 PE11, M10 PE13, M11 PE14, M12 PE15

## STM32L152V_8-B_HxA
designator *  value STM32L152V_8-B_HxA  Reference: U
STMicroelectronics Arm Cortex-M3 MCU, 64-128KB flash, 32KB RAM, 32 MHz, 1.65-3.6V, 83 GPIO, UFBGA100; ki_keywords: Arm Cortex-M3 STM32L1 STM32L151/152; ki_fp_filters: UFBGA*7x7mm*Layout12x12*P0.5mm*; Footprint: Package_BGA:UFBGA-100_7x7mm_Layout12x12_P0.5mm; Datasheet: https://www.st.com/resource/en/datasheet/stm32l152v8-a.pdf; Description_: STMicroelectronics Arm Cortex-M3 MCU, 64-128KB flash, 32KB RAM, 32 MHz, 1.65-3.6V, 83 GPIO, UFBGA100
pins: A1 PE3, A2 PE1, A3 PB8, A4 BOOT0, A5 PD7, A6 PD5, A7 PB4, A8 PB3, A9 PA15, A10 PA14, A11 PA13, A12 PA12, B1 PE4, B2 PE2, B3 PB9, B4 PB7, B5 PB6, B6 PD6, B7 PD4, B8 PD3, B9 PD1, B10 PC12, B11 PC10, B12 PA11, C1 PC13, C2 PE5, C3 PE0, C4 VDD, C5 PB5, C8 PD2, C9 PD0, C10 PC11, C11 PH2, C12 PA10, D1 PC14, D2 PE6, D3 VSS, D10 PA9, D11 PA8, D12 PC9, E1 PC15, E2 VLCD, E3 VSS, E10 PC8, E11 PC7, E12 PC6, F1 PH0, F2 VSS, F11 VSS, F12 VSS, G1 PH1, G2 VDD, G11 VDD, G12 VDD, H1 PC0, H2 NRST, H3 VDD, H10 PD15, H11 PD14, H12 PD13, J1 VSSA, J2 PC1, J3 PC2, J10 PD12, J11 PD11, J12 PD10, K1 VREF-, K2 PC3, K3 PA2, K4 PA5, K5 PC4, K8 PD9, K9 PD8, K10 PB15, K11 PB14, K12 PB13, L1 VREF+, L2 PA0, L3 PA3, L4 PA6, L5 PC5, L6 PB2, L7 PE8, L8 PE10, L9 PE12, L10 PB10, L11 PB11, L12 PB12, M1 VDDA, M2 PA1, M3 PA4, M4 PA7, M5 PB0, M6 PB1, M7 PE7, M8 PE9, M9 PE11, M10 PE13, M11 PE14, M12 PE15

## STM32L152V_8-B_Tx
designator *  value STM32L152V_8-B_Tx  Reference: U
STMicroelectronics Arm Cortex-M3 MCU, 64-128KB flash, 10-16KB RAM, 32 MHz, 1.65-3.6V, 83 GPIO, LQFP100; ki_keywords: Arm Cortex-M3 STM32L1 STM32L151/152; ki_fp_filters: LQFP*14x14mm*P0.5mm*; Footprint: Package_QFP:LQFP-100_14x14mm_P0.5mm; Datasheet: https://www.st.com/resource/en/datasheet/stm32l152v8.pdf; Description_: STMicroelectronics Arm Cortex-M3 MCU, 64-128KB flash, 10-16KB RAM, 32 MHz, 1.65-3.6V, 83 GPIO, LQFP100
pins: 1 PE2, 2 PE3, 3 PE4, 4 PE5, 5 PE6, 6 VLCD, 7 PC13, 8 PC14, 9 PC15, 10 VSS, 11 VDD, 12 PH0, 13 PH1, 14 NRST, 15 PC0, 16 PC1, 17 PC2, 18 PC3, 19 VSSA, 20 VREF-, 21 VREF+, 22 VDDA, 23 PA0, 24 PA1, 25 PA2, 26 PA3, 27 VSS, 28 VDD, 29 PA4, 30 PA5, 31 PA6, 32 PA7, 33 PC4, 34 PC5, 35 PB0, 36 PB1, 37 PB2, 38 PE7, 39 PE8, 40 PE9, 41 PE10, 42 PE11, 43 PE12, 44 PE13, 45 PE14, 46 PE15, 47 PB10, 48 PB11, 49 VSS, 50 VDD, 51 PB12, 52 PB13, 53 PB14, 54 PB15, 55 PD8, 56 PD9, 57 PD10, 58 PD11, 59 PD12, 60 PD13, 61 PD14, 62 PD15, 63 PC6, 64 PC7, 65 PC8, 66 PC9, 67 PA8, 68 PA9, 69 PA10, 70 PA11, 71 PA12, 72 PA13, 73 PH2, 74 VSS, 75 VDD, 76 PA14, 77 PA15, 78 PC10, 79 PC11, 80 PC12, 81 PD0, 82 PD1, 83 PD2, 84 PD3, 85 PD4, 86 PD5, 87 PD6, 88 PD7, 89 PB3, 90 PB4, 91 PB5, 92 PB6, 93 PB7, 94 BOOT0, 95 PB8, 96 PB9, 97 PE0, 98 PE1, 99 VSS, 100 VDD

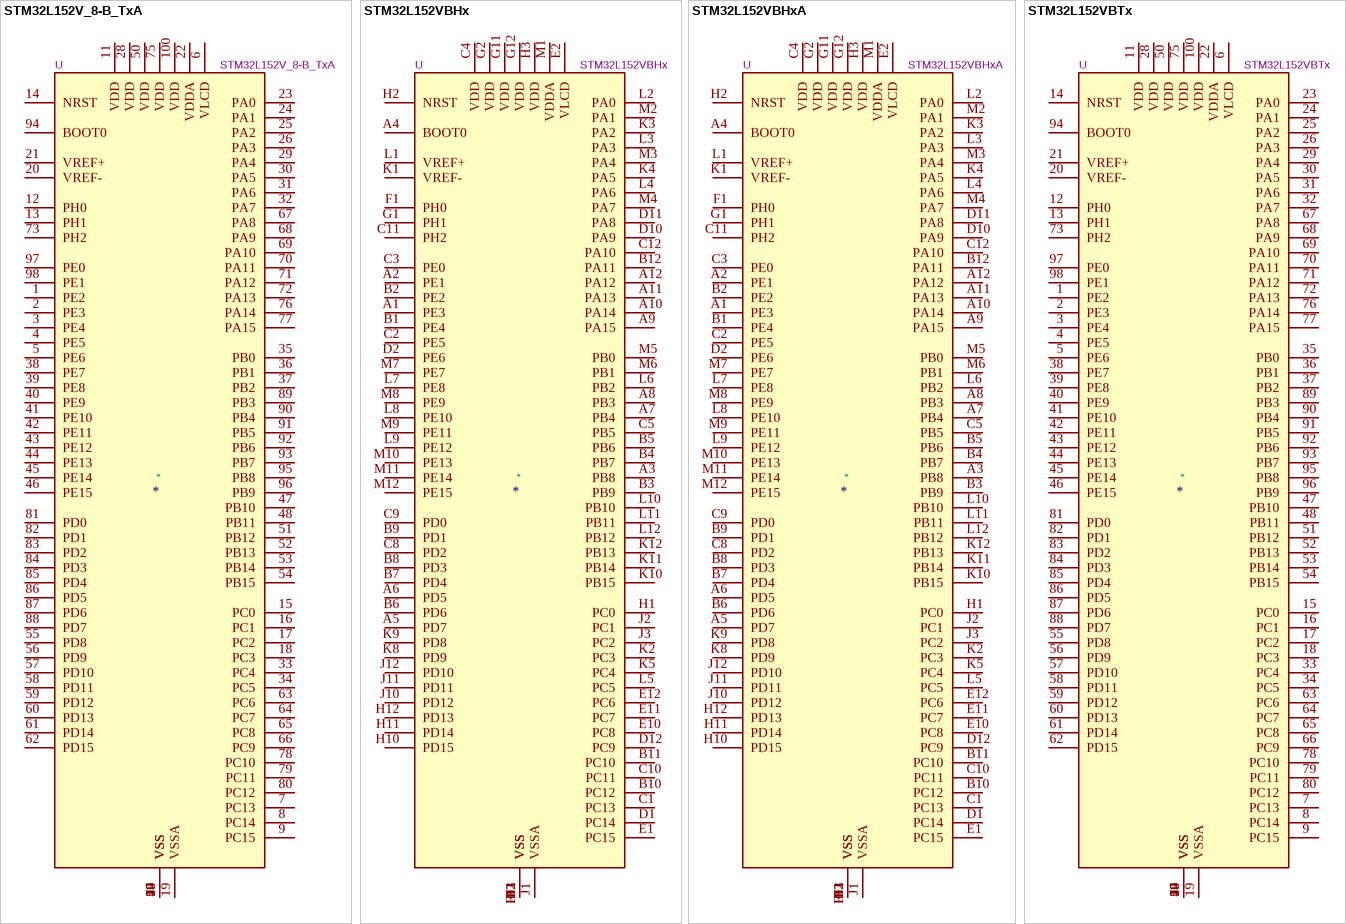
[diagram p19: symbols STM32L152V_8-B_TxA to STM32L152VBTx]

## STM32L152V_8-B_TxA
designator *  value STM32L152V_8-B_TxA  Reference: U
STMicroelectronics Arm Cortex-M3 MCU, 64-128KB flash, 32KB RAM, 32 MHz, 1.65-3.6V, 83 GPIO, LQFP100; ki_keywords: Arm Cortex-M3 STM32L1 STM32L151/152; ki_fp_filters: LQFP*14x14mm*P0.5mm*; Footprint: Package_QFP:LQFP-100_14x14mm_P0.5mm; Datasheet: https://www.st.com/resource/en/datasheet/stm32l152v8-a.pdf; Description_: STMicroelectronics Arm Cortex-M3 MCU, 64-128KB flash, 32KB RAM, 32 MHz, 1.65-3.6V, 83 GPIO, LQFP100
pins: 1 PE2, 2 PE3, 3 PE4, 4 PE5, 5 PE6, 6 VLCD, 7 PC13, 8 PC14, 9 PC15, 10 VSS, 11 VDD, 12 PH0, 13 PH1, 14 NRST, 15 PC0, 16 PC1, 17 PC2, 18 PC3, 19 VSSA, 20 VREF-, 21 VREF+, 22 VDDA, 23 PA0, 24 PA1, 25 PA2, 26 PA3, 27 VSS, 28 VDD, 29 PA4, 30 PA5, 31 PA6, 32 PA7, 33 PC4, 34 PC5, 35 PB0, 36 PB1, 37 PB2, 38 PE7, 39 PE8, 40 PE9, 41 PE10, 42 PE11, 43 PE12, 44 PE13, 45 PE14, 46 PE15, 47 PB10, 48 PB11, 49 VSS, 50 VDD, 51 PB12, 52 PB13, 53 PB14, 54 PB15, 55 PD8, 56 PD9, 57 PD10, 58 PD11, 59 PD12, 60 PD13, 61 PD14, 62 PD15, 63 PC6, 64 PC7, 65 PC8, 66 PC9, 67 PA8, 68 PA9, 69 PA10, 70 PA11, 71 PA12, 72 PA13, 73 PH2, 74 VSS, 75 VDD, 76 PA14, 77 PA15, 78 PC10, 79 PC11, 80 PC12, 81 PD0, 82 PD1, 83 PD2, 84 PD3, 85 PD4, 86 PD5, 87 PD6, 88 PD7, 89 PB3, 90 PB4, 91 PB5, 92 PB6, 93 PB7, 94 BOOT0, 95 PB8, 96 PB9, 97 PE0, 98 PE1, 99 VSS, 100 VDD

## STM32L152VBHx
designator *  value STM32L152VBHx  Reference: U
STMicroelectronics Arm Cortex-M3 MCU, 128KB flash, 16KB RAM, 32 MHz, 1.65-3.6V, 83 GPIO, UFBGA100; ki_keywords: Arm Cortex-M3 STM32L1 STM32L151/152; ki_fp_filters: UFBGA*7x7mm*Layout12x12*P0.5mm*; Footprint: Package_BGA:UFBGA-100_7x7mm_Layout12x12_P0.5mm; Datasheet: https://www.st.com/resource/en/datasheet/stm32l152vb.pdf; Description_: STMicroelectronics Arm Cortex-M3 MCU, 128KB flash, 16KB RAM, 32 MHz, 1.65-3.6V, 83 GPIO, UFBGA100
pins: A1 PE3, A2 PE1, A3 PB8, A4 BOOT0, A5 PD7, A6 PD5, A7 PB4, A8 PB3, A9 PA15, A10 PA14, A11 PA13, A12 PA12, B1 PE4, B2 PE2, B3 PB9, B4 PB7, B5 PB6, B6 PD6, B7 PD4, B8 PD3, B9 PD1, B10 PC12, B11 PC10, B12 PA11, C1 PC13, C2 PE5, C3 PE0, C4 VDD, C5 PB5, C8 PD2, C9 PD0, C10 PC11, C11 PH2, C12 PA10, D1 PC14, D2 PE6, D3 VSS, D10 PA9, D11 PA8, D12 PC9, E1 PC15, E2 VLCD, E3 VSS, E10 PC8, E11 PC7, E12 PC6, F1 PH0, F2 VSS, F11 VSS, F12 VSS, G1 PH1, G2 VDD, G11 VDD, G12 VDD, H1 PC0, H2 NRST, H3 VDD, H10 PD15, H11 PD14, H12 PD13, J1 VSSA, J2 PC1, J3 PC2, J10 PD12, J11 PD11, J12 PD10, K1 VREF-, K2 PC3, K3 PA2, K4 PA5, K5 PC4, K8 PD9, K9 PD8, K10 PB15, K11 PB14, K12 PB13, L1 VREF+, L2 PA0, L3 PA3, L4 PA6, L5 PC5, L6 PB2, L7 PE8, L8 PE10, L9 PE12, L10 PB10, L11 PB11, L12 PB12, M1 VDDA, M2 PA1, M3 PA4, M4 PA7, M5 PB0, M6 PB1, M7 PE7, M8 PE9, M9 PE11, M10 PE13, M11 PE14, M12 PE15

## STM32L152VBHxA
designator *  value STM32L152VBHxA  Reference: U
STMicroelectronics Arm Cortex-M3 MCU, 128KB flash, 32KB RAM, 32 MHz, 1.65-3.6V, 83 GPIO, UFBGA100; ki_keywords: Arm Cortex-M3 STM32L1 STM32L151/152; ki_fp_filters: UFBGA*7x7mm*Layout12x12*P0.5mm*; Footprint: Package_BGA:UFBGA-100_7x7mm_Layout12x12_P0.5mm; Datasheet: https://www.st.com/resource/en/datasheet/stm32l152vb-a.pdf; Description_: STMicroelectronics Arm Cortex-M3 MCU, 128KB flash, 32KB RAM, 32 MHz, 1.65-3.6V, 83 GPIO, UFBGA100
pins: A1 PE3, A2 PE1, A3 PB8, A4 BOOT0, A5 PD7, A6 PD5, A7 PB4, A8 PB3, A9 PA15, A10 PA14, A11 PA13, A12 PA12, B1 PE4, B2 PE2, B3 PB9, B4 PB7, B5 PB6, B6 PD6, B7 PD4, B8 PD3, B9 PD1, B10 PC12, B11 PC10, B12 PA11, C1 PC13, C2 PE5, C3 PE0, C4 VDD, C5 PB5, C8 PD2, C9 PD0, C10 PC11, C11 PH2, C12 PA10, D1 PC14, D2 PE6, D3 VSS, D10 PA9, D11 PA8, D12 PC9, E1 PC15, E2 VLCD, E3 VSS, E10 PC8, E11 PC7, E12 PC6, F1 PH0, F2 VSS, F11 VSS, F12 VSS, G1 PH1, G2 VDD, G11 VDD, G12 VDD, H1 PC0, H2 NRST, H3 VDD, H10 PD15, H11 PD14, H12 PD13, J1 VSSA, J2 PC1, J3 PC2, J10 PD12, J11 PD11, J12 PD10, K1 VREF-, K2 PC3, K3 PA2, K4 PA5, K5 PC4, K8 PD9, K9 PD8, K10 PB15, K11 PB14, K12 PB13, L1 VREF+, L2 PA0, L3 PA3, L4 PA6, L5 PC5, L6 PB2, L7 PE8, L8 PE10, L9 PE12, L10 PB10, L11 PB11, L12 PB12, M1 VDDA, M2 PA1, M3 PA4, M4 PA7, M5 PB0, M6 PB1, M7 PE7, M8 PE9, M9 PE11, M10 PE13, M11 PE14, M12 PE15

## STM32L152VBTx
designator *  value STM32L152VBTx  Reference: U
STMicroelectronics Arm Cortex-M3 MCU, 128KB flash, 16KB RAM, 32 MHz, 1.65-3.6V, 83 GPIO, LQFP100; ki_keywords: Arm Cortex-M3 STM32L1 STM32L151/152; ki_fp_filters: LQFP*14x14mm*P0.5mm*; Footprint: Package_QFP:LQFP-100_14x14mm_P0.5mm; Datasheet: https://www.st.com/resource/en/datasheet/stm32l152vb.pdf; Description_: STMicroelectronics Arm Cortex-M3 MCU, 128KB flash, 16KB RAM, 32 MHz, 1.65-3.6V, 83 GPIO, LQFP100
pins: 1 PE2, 2 PE3, 3 PE4, 4 PE5, 5 PE6, 6 VLCD, 7 PC13, 8 PC14, 9 PC15, 10 VSS, 11 VDD, 12 PH0, 13 PH1, 14 NRST, 15 PC0, 16 PC1, 17 PC2, 18 PC3, 19 VSSA, 20 VREF-, 21 VREF+, 22 VDDA, 23 PA0, 24 PA1, 25 PA2, 26 PA3, 27 VSS, 28 VDD, 29 PA4, 30 PA5, 31 PA6, 32 PA7, 33 PC4, 34 PC5, 35 PB0, 36 PB1, 37 PB2, 38 PE7, 39 PE8, 40 PE9, 41 PE10, 42 PE11, 43 PE12, 44 PE13, 45 PE14, 46 PE15, 47 PB10, 48 PB11, 49 VSS, 50 VDD, 51 PB12, 52 PB13, 53 PB14, 54 PB15, 55 PD8, 56 PD9, 57 PD10, 58 PD11, 59 PD12, 60 PD13, 61 PD14, 62 PD15, 63 PC6, 64 PC7, 65 PC8, 66 PC9, 67 PA8, 68 PA9, 69 PA10, 70 PA11, 71 PA12, 72 PA13, 73 PH2, 74 VSS, 75 VDD, 76 PA14, 77 PA15, 78 PC10, 79 PC11, 80 PC12, 81 PD0, 82 PD1, 83 PD2, 84 PD3, 85 PD4, 86 PD5, 87 PD6, 88 PD7, 89 PB3, 90 PB4, 91 PB5, 92 PB6, 93 PB7, 94 BOOT0, 95 PB8, 96 PB9, 97 PE0, 98 PE1, 99 VSS, 100 VDD

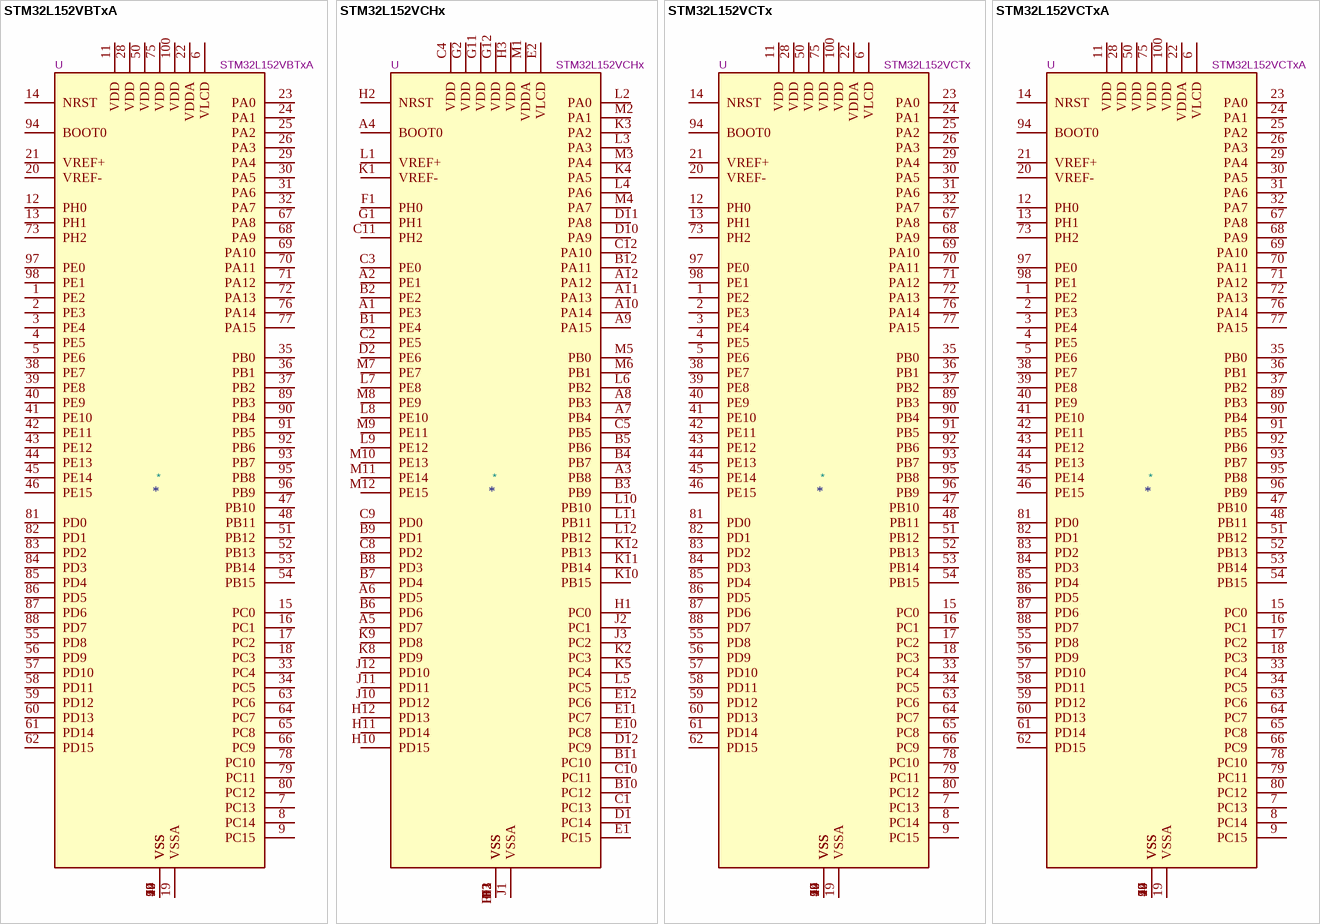
[diagram p20: symbols STM32L152VBTxA to STM32L152VCTxA]

## STM32L152VBTxA
designator *  value STM32L152VBTxA  Reference: U
STMicroelectronics Arm Cortex-M3 MCU, 128KB flash, 32KB RAM, 32 MHz, 1.65-3.6V, 83 GPIO, LQFP100; ki_keywords: Arm Cortex-M3 STM32L1 STM32L151/152; ki_fp_filters: LQFP*14x14mm*P0.5mm*; Footprint: Package_QFP:LQFP-100_14x14mm_P0.5mm; Datasheet: https://www.st.com/resource/en/datasheet/stm32l152vb-a.pdf; Description_: STMicroelectronics Arm Cortex-M3 MCU, 128KB flash, 32KB RAM, 32 MHz, 1.65-3.6V, 83 GPIO, LQFP100
pins: 1 PE2, 2 PE3, 3 PE4, 4 PE5, 5 PE6, 6 VLCD, 7 PC13, 8 PC14, 9 PC15, 10 VSS, 11 VDD, 12 PH0, 13 PH1, 14 NRST, 15 PC0, 16 PC1, 17 PC2, 18 PC3, 19 VSSA, 20 VREF-, 21 VREF+, 22 VDDA, 23 PA0, 24 PA1, 25 PA2, 26 PA3, 27 VSS, 28 VDD, 29 PA4, 30 PA5, 31 PA6, 32 PA7, 33 PC4, 34 PC5, 35 PB0, 36 PB1, 37 PB2, 38 PE7, 39 PE8, 40 PE9, 41 PE10, 42 PE11, 43 PE12, 44 PE13, 45 PE14, 46 PE15, 47 PB10, 48 PB11, 49 VSS, 50 VDD, 51 PB12, 52 PB13, 53 PB14, 54 PB15, 55 PD8, 56 PD9, 57 PD10, 58 PD11, 59 PD12, 60 PD13, 61 PD14, 62 PD15, 63 PC6, 64 PC7, 65 PC8, 66 PC9, 67 PA8, 68 PA9, 69 PA10, 70 PA11, 71 PA12, 72 PA13, 73 PH2, 74 VSS, 75 VDD, 76 PA14, 77 PA15, 78 PC10, 79 PC11, 80 PC12, 81 PD0, 82 PD1, 83 PD2, 84 PD3, 85 PD4, 86 PD5, 87 PD6, 88 PD7, 89 PB3, 90 PB4, 91 PB5, 92 PB6, 93 PB7, 94 BOOT0, 95 PB8, 96 PB9, 97 PE0, 98 PE1, 99 VSS, 100 VDD